# Altium integrated library Infineon Microcontroller 32-bit TriCore AURIX.IntLib: 81 symbols (part 4 of 8)
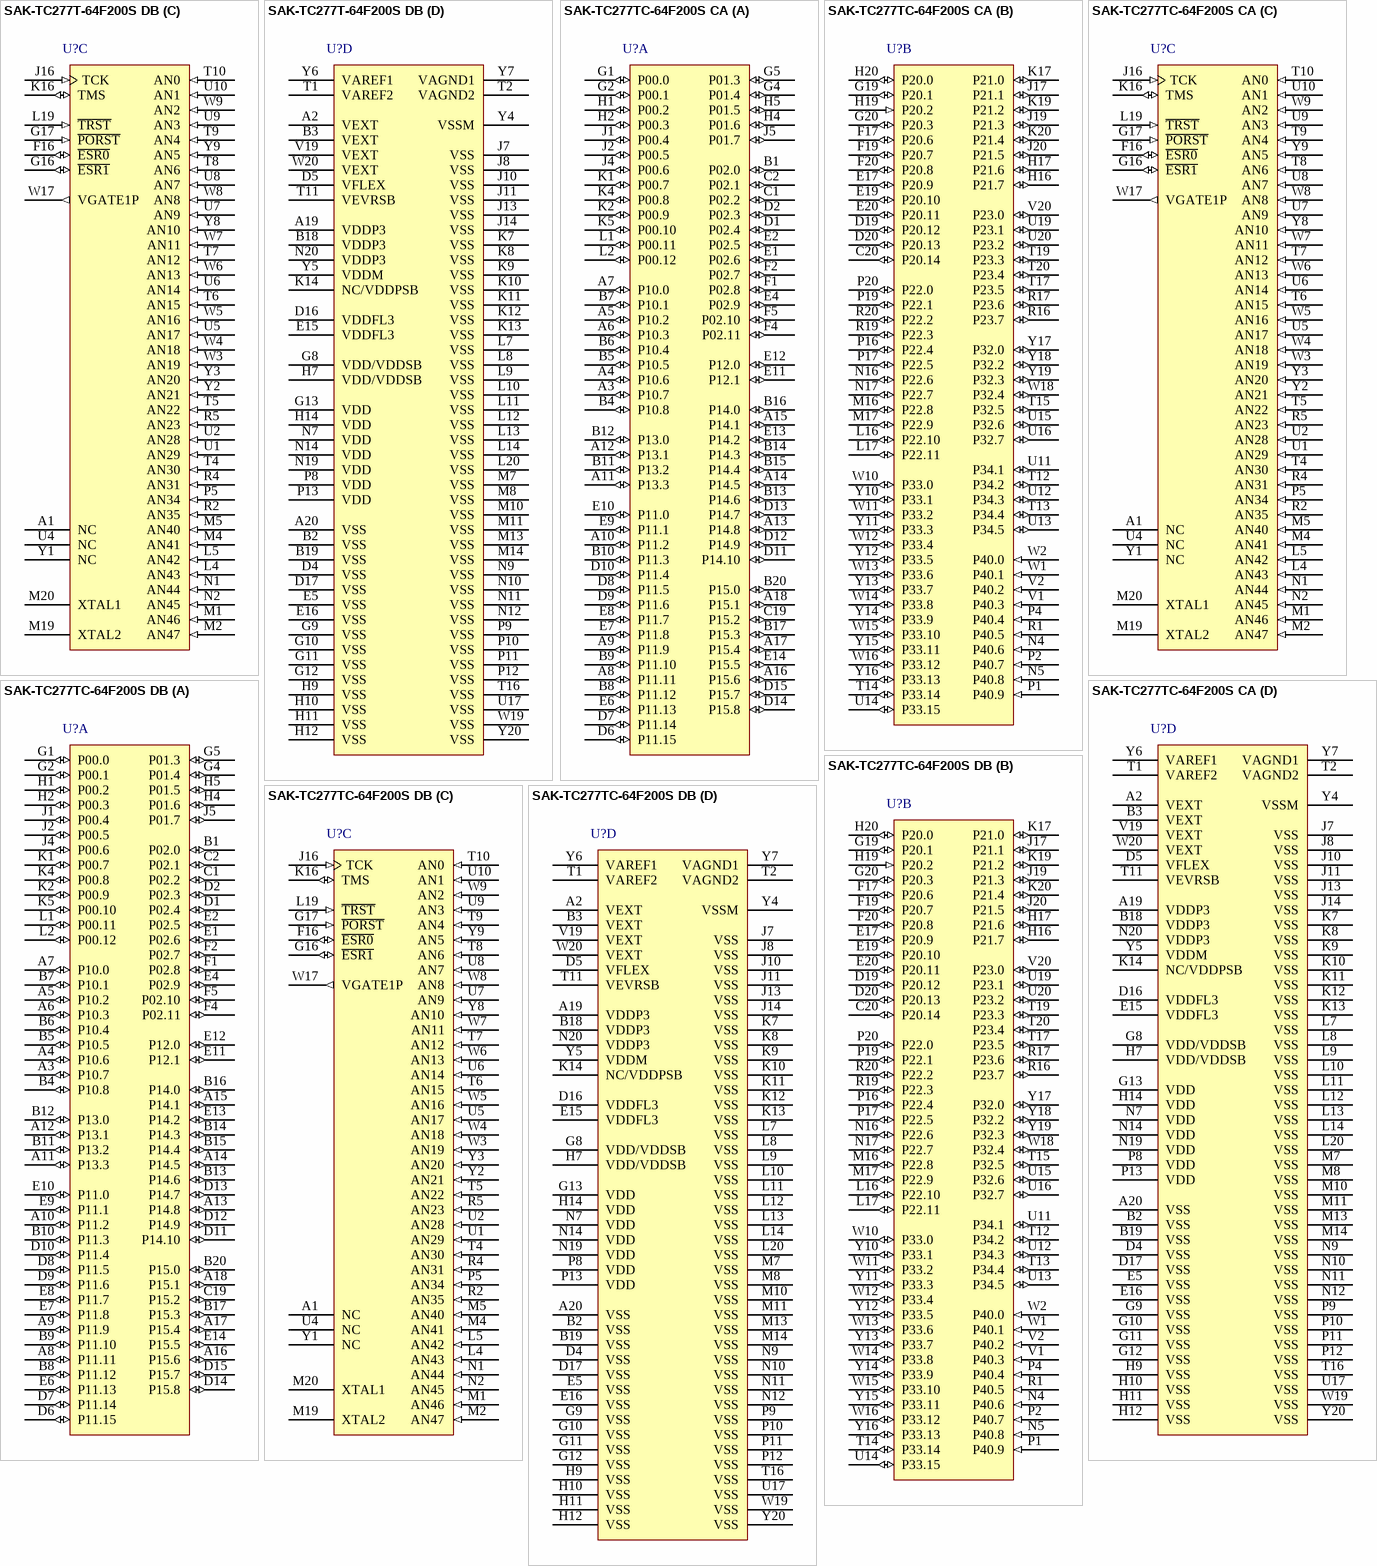
[diagram p38: symbols SAK-TC277T-64F200S DB to SAK-TC277TC-64F200S DB]

## SAK-TC277TC-64F200S DB
designator U?
32-bit multi-core TriCore AURIX microcontroller with 424 KB SRAM, 4 MB Flash, 200 MHz Frequency, -40 to 125 degC, PG-LFBGA-292; Manufacturer: Infineon; ADC Chan.: 60; CAN FD: No; Core 0 TC16E DSPR (KB): 112; Core 0 TC16E PSPR (KB): 24; Core 1&2 TC16P DSPR (KB): 120; EEPROM (KB): 24 @ 500k; Flash (MB): 4; FlexRay (#/ch.): 1 / 2; Freq. (MHz): 200; HSM: Yes; Total SRAM (KB): 424; Derivative: SAK-TC277TC-64F200S DB; DatasheetVersion: Rev. 0.7; PackageReference: PG-LFBGA-292-6; PackageDescription: 292-Pin Plastic (Green) Low Profile Fine Pitch Ball Grid Array Package, 17 x 17 mm Body, 0.8 mm Pitch; Core 1&2 TC16P PSPR (KB): 24; ETH: No; Supplier Part Reference: TC277TC64F200SDBKXUMA1; Mounting Technology: Surface Mount; PartNumber: SAK-TC277TC-64F200S DB; ComponentLink1Description: Manufacturer URL; ComponentLink1URL: http://www.infineon.com/
footprint INF-PG-LFBGA-292-6 (BGA, 292-Balls, Body 17x17mm, Pitch 0.8mm)
part A pins: A3 P10.7 (io), A4 P10.6 (io), A5 P10.2 (io), A6 P10.3 (io), A7 P10.0 (io), A8 P11.11 (io), A9 P11.9 (io), A10 P11.2 (io), A11 P13.3 (io), A12 P13.1 (io), A13 P14.8 (io), A14 P14.5 (io), A15 P14.1 (io), A16 P15.6 (io), A17 P15.4 (io), A18 P15.1 (io), B1 P02.0 (io), B4 P10.8 (io), B5 P10.5 (io), B6 P10.4 (io), B7 P10.1 (io), B8 P11.12 (io), B9 P11.10 (io), B10 P11.3 (io), B11 P13.2 (io), B12 P13.0 (io), B13 P14.6 (io), B14 P14.3 (io), B15 P14.4 (io), B16 P14.0 (io), B17 P15.3 (io), B20 P15.0 (io), C1 P02.2 (io), C2 P02.1 (io), C19 P15.2 (io), D1 P02.4 (io), D2 P02.3 (io), D6 P11.15 (io), D7 P11.14 (io), D8 P11.5 (io), D9 P11.6 (io), D10 P11.4 (io), D11 P14.10 (io), D12 P14.9 (io), D13 P14.7 (io), D14 P15.8 (io), D15 P15.7 (io), E1 P02.6 (io), E2 P02.5 (io), E4 P02.9 (io), E6 P11.13 (io), E7 P11.8 (io), E8 P11.7 (io), E9 P11.1 (io), E10 P11.0 (io), E11 P12.1 (io), E12 P12.0 (io), E13 P14.2 (io), E14 P15.5 (io), F1 P02.8 (io), F2 P02.7 (io), F4 P02.11 (io), F5 P02.10 (io), G1 P00.0 (io), G2 P00.1 (io), G4 P01.4 (io), G5 P01.3 (io), H1 P00.2 (io), H2 P00.3 (io), H4 P01.6 (io), H5 P01.5 (io), J1 P00.4 (io), J2 P00.5 (io), J4 P00.6 (io), J5 P01.7 (io), K1 P00.7 (io), K2 P00.9 (io), K4 P00.8 (io), K5 P00.10 (io), L1 P00.11 (io), L2 P00.12 (io)
part B pins: C20 P20.14 (io), D19 P20.12 (io), D20 P20.13 (io), E17 P20.9 (io), E19 P20.10 (io), E20 P20.11 (io), F17 P20.6 (io), F19 P20.7 (io), F20 P20.8 (io), G19 P20.1 (io), G20 P20.3 (io), H16 P21.7 (io), H17 P21.6 (io), H19 P20.2 (in), H20 P20.0 (io), J17 P21.1 (io), J19 P21.3 (io), J20 P21.5 (io), K17 P21.0 (io), K19 P21.2 (io), K20 P21.4 (io), L16 P22.10 (io), L17 P22.11 (io), M16 P22.8 (io), M17 P22.9 (io), N4 P40.6 (in), N5 P40.8 (in), N16 P22.6 (io), N17 P22.7 (io), P1 P40.9 (in), P2 P40.7 (in), P4 P40.4 (in), P16 P22.4 (io), P17 P22.5 (io), P19 P22.1 (io), P20 P22.0 (io), R1 P40.5 (in), R16 P23.7 (io), R17 P23.6 (io), R19 P22.3 (io), R20 P22.2 (io), T12 P34.2 (io), T13 P34.4 (io), T14 P33.14 (io), T15 P32.5 (io), T17 P23.5 (io), T19 P23.3 (io), T20 P23.4 (io), U11 P34.1 (io), U12 P34.3 (io), U13 P34.5 (io), U14 P33.15 (io), U15 P32.6 (io), U16 P32.7 (io), U19 P23.1 (io), U20 P23.2 (io), V1 P40.3 (in), V2 P40.2 (in), V20 P23.0 (io), W1 P40.1 (in), W2 P40.0 (in), W10 P33.0 (io), W11 P33.2 (io), W12 P33.4 (io), W13 P33.6 (io), W14 P33.8 (io), W15 P33.10 (io), W16 P33.12 (io), W18 P32.4 (io), Y10 P33.1 (io), Y11 P33.3 (io), Y12 P33.5 (io), Y13 P33.7 (io), Y14 P33.9 (io), Y15 P33.11 (io), Y16 P33.13 (io), Y17 P32.0 (io), Y18 P32.2 (io), Y19 P32.3 (io)
part C pins: A1 NC, F16 ~{ESR0} (io), G16 ~{ESR1} (io), G17 ~{PORST} (in), J16 TCK (in), K16 TMS (io), L4 AN43 (in), L5 AN42 (in), L19 ~{TRST} (in), M1 AN46 (in), M2 AN47 (in), M4 AN41 (in), M5 AN40 (in), M19 XTAL2, M20 XTAL1, N1 AN44 (in), N2 AN45 (in), P5 AN34 (in), R2 AN35 (in), R4 AN31 (in), R5 AN23 (in), T4 AN30 (in), T5 AN22 (in), T6 AN15 (in), T7 AN12 (in), T8 AN6 (in), T9 AN4 (in), T10 AN0 (in), U1 AN29 (in), U2 AN28 (in), U4 NC, U5 AN17 (in), U6 AN14 (in), U7 AN9 (in), U8 AN7 (in), U9 AN3 (in), U10 AN1 (in), W3 AN19 (in), W4 AN18 (in), W5 AN16 (in), W6 AN13 (in), W7 AN11 (in), W8 AN8 (in), W9 AN2 (in), W17 VGATE1P (out), Y1 NC, Y2 AN21 (in), Y3 AN20 (in), Y8 AN10 (in), Y9 AN5 (in)
part D pins: A2 VEXT (power), A19 VDDP3 (power), A20 VSS (power), B2 VSS (power), B3 VEXT (power), B18 VDDP3 (power), B19 VSS (power), D4 VSS (power), D5 VFLEX (power), D16 VDDFL3 (power), D17 VSS (power), E5 VSS (power), E15 VDDFL3 (power), E16 VSS (power), G8 VDD/VDDSB (power), G9 VSS (power), G10 VSS (power), G11 VSS (power), G12 VSS (power), G13 VDD (power), H7 VDD/VDDSB (power), H9 VSS (power), H10 VSS (power), H11 VSS (power), H12 VSS (power), H14 VDD (power), J7 VSS (power), J8 VSS (power), J10 VSS (power), J11 VSS (power), J13 VSS (power), J14 VSS (power), K7 VSS (power), K8 VSS (power), K9 VSS (power), K10 VSS (power), K11 VSS (power), K12 VSS (power), K13 VSS (power), K14 NC/VDDPSB, L7 VSS (power), L8 VSS (power), L9 VSS (power), L10 VSS (power), L11 VSS (power), L12 VSS (power), L13 VSS (power), L14 VSS (power), L20 VSS (power), M7 VSS (power), M8 VSS (power), M10 VSS (power), M11 VSS (power), M13 VSS (power), M14 VSS (power), N7 VDD (power), N9 VSS (power), N10 VSS (power), N11 VSS (power), N12 VSS (power), N14 VDD (power), N19 VDD (power), N20 VDDP3 (power), P8 VDD (power), P9 VSS (power), P10 VSS (power), P11 VSS (power), P12 VSS (power), P13 VDD (power), T1 VAREF2 (power), T2 VAGND2 (power), T11 VEVRSB (power), T16 VSS (power), U17 VSS (power), V19 VEXT (power), W19 VSS (power), W20 VEXT (power), Y4 VSSM (power), Y5 VDDM (power), Y6 VAREF1 (power), Y7 VAGND1 (power), Y20 VSS (power)

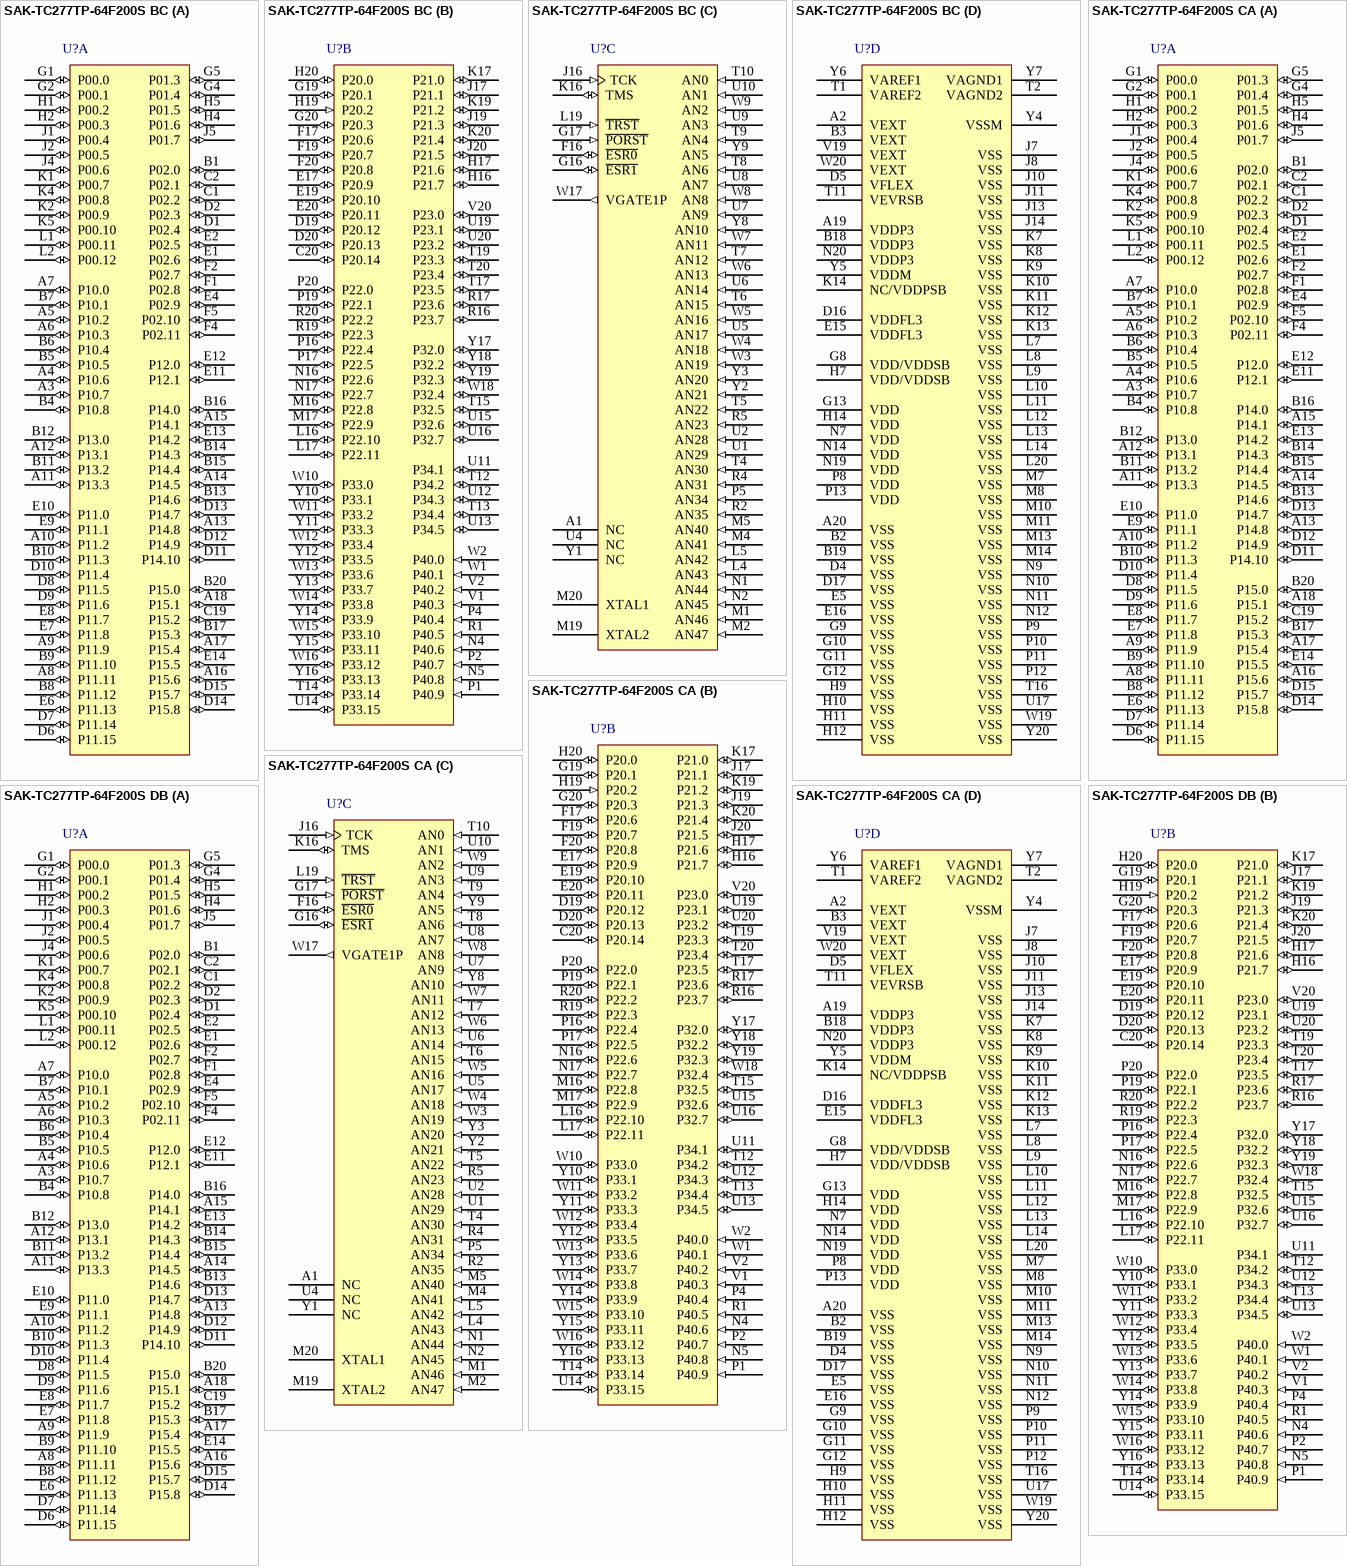
[diagram p16: symbols SAK-TC277TP-64F200S BC to SAK-TC277TP-64F200S DB]

## SAK-TC277TP-64F200S BC
designator U?
32-bit multi-core TriCore AURIX microcontroller with 472 KB SRAM, 4 MB Flash, 200 MHz Frequency, -40 to 125 degC, PG-LFBGA-292; Manufacturer: Infineon; ADC Chan.: 60; CAN FD: No; Core 0 TC16E DSPR (KB): 112; Core 0 TC16E PSPR (KB): 24; Core 1&2 TC16P DSPR (KB): 120; Core 1&2 TC16P PSPR (KB): 32; EEPROM (KB): 64 @ 500k; ETH: Yes; Flash (MB): 4; FlexRay (#/ch.): 1 / 2; Freq. (MHz): 200; Total SRAM (KB): 472; Derivative: SAK-TC277TP-64F200S BC; DatasheetVersion: Rev. 0.71; PackageReference: PG-LFBGA-292-6; PackageDescription: 292-Pin Plastic (Green) Low Profile Fine Pitch Ball Grid Array Package, 17 x 17 mm Body, 0.8 mm Pitch; HSM: Yes; LMU (KB): 32; Supplier Part Reference: TC277TP64F200SBCKXUMA1; Mounting Technology: Surface Mount; PartNumber: SAK-TC277TP-64F200S BC; ComponentLink1Description: Manufacturer URL; ComponentLink1URL: http://www.infineon.com/
footprint INF-PG-LFBGA-292-6 (BGA, 292-Balls, Body 17x17mm, Pitch 0.8mm)
part A pins: A3 P10.7 (io), A4 P10.6 (io), A5 P10.2 (io), A6 P10.3 (io), A7 P10.0 (io), A8 P11.11 (io), A9 P11.9 (io), A10 P11.2 (io), A11 P13.3 (io), A12 P13.1 (io), A13 P14.8 (io), A14 P14.5 (io), A15 P14.1 (io), A16 P15.6 (io), A17 P15.4 (io), A18 P15.1 (io), B1 P02.0 (io), B4 P10.8 (io), B5 P10.5 (io), B6 P10.4 (io), B7 P10.1 (io), B8 P11.12 (io), B9 P11.10 (io), B10 P11.3 (io), B11 P13.2 (io), B12 P13.0 (io), B13 P14.6 (io), B14 P14.3 (io), B15 P14.4 (io), B16 P14.0 (io), B17 P15.3 (io), B20 P15.0 (io), C1 P02.2 (io), C2 P02.1 (io), C19 P15.2 (io), D1 P02.4 (io), D2 P02.3 (io), D6 P11.15 (io), D7 P11.14 (io), D8 P11.5 (io), D9 P11.6 (io), D10 P11.4 (io), D11 P14.10 (io), D12 P14.9 (io), D13 P14.7 (io), D14 P15.8 (io), D15 P15.7 (io), E1 P02.6 (io), E2 P02.5 (io), E4 P02.9 (io), E6 P11.13 (io), E7 P11.8 (io), E8 P11.7 (io), E9 P11.1 (io), E10 P11.0 (io), E11 P12.1 (io), E12 P12.0 (io), E13 P14.2 (io), E14 P15.5 (io), F1 P02.8 (io), F2 P02.7 (io), F4 P02.11 (io), F5 P02.10 (io), G1 P00.0 (io), G2 P00.1 (io), G4 P01.4 (io), G5 P01.3 (io), H1 P00.2 (io), H2 P00.3 (io), H4 P01.6 (io), H5 P01.5 (io), J1 P00.4 (io), J2 P00.5 (io), J4 P00.6 (io), J5 P01.7 (io), K1 P00.7 (io), K2 P00.9 (io), K4 P00.8 (io), K5 P00.10 (io), L1 P00.11 (io), L2 P00.12 (io)
part B pins: C20 P20.14 (io), D19 P20.12 (io), D20 P20.13 (io), E17 P20.9 (io), E19 P20.10 (io), E20 P20.11 (io), F17 P20.6 (io), F19 P20.7 (io), F20 P20.8 (io), G19 P20.1 (io), G20 P20.3 (io), H16 P21.7 (io), H17 P21.6 (io), H19 P20.2 (in), H20 P20.0 (io), J17 P21.1 (io), J19 P21.3 (io), J20 P21.5 (io), K17 P21.0 (io), K19 P21.2 (io), K20 P21.4 (io), L16 P22.10 (io), L17 P22.11 (io), M16 P22.8 (io), M17 P22.9 (io), N4 P40.6 (in), N5 P40.8 (in), N16 P22.6 (io), N17 P22.7 (io), P1 P40.9 (in), P2 P40.7 (in), P4 P40.4 (in), P16 P22.4 (io), P17 P22.5 (io), P19 P22.1 (io), P20 P22.0 (io), R1 P40.5 (in), R16 P23.7 (io), R17 P23.6 (io), R19 P22.3 (io), R20 P22.2 (io), T12 P34.2 (io), T13 P34.4 (io), T14 P33.14 (io), T15 P32.5 (io), T17 P23.5 (io), T19 P23.3 (io), T20 P23.4 (io), U11 P34.1 (io), U12 P34.3 (io), U13 P34.5 (io), U14 P33.15 (io), U15 P32.6 (io), U16 P32.7 (io), U19 P23.1 (io), U20 P23.2 (io), V1 P40.3 (in), V2 P40.2 (in), V20 P23.0 (io), W1 P40.1 (in), W2 P40.0 (in), W10 P33.0 (io), W11 P33.2 (io), W12 P33.4 (io), W13 P33.6 (io), W14 P33.8 (io), W15 P33.10 (io), W16 P33.12 (io), W18 P32.4 (io), Y10 P33.1 (io), Y11 P33.3 (io), Y12 P33.5 (io), Y13 P33.7 (io), Y14 P33.9 (io), Y15 P33.11 (io), Y16 P33.13 (io), Y17 P32.0 (io), Y18 P32.2 (io), Y19 P32.3 (io)
part C pins: A1 NC, F16 ~{ESR0} (io), G16 ~{ESR1} (io), G17 ~{PORST} (in), J16 TCK (in), K16 TMS (io), L4 AN43 (in), L5 AN42 (in), L19 ~{TRST} (in), M1 AN46 (in), M2 AN47 (in), M4 AN41 (in), M5 AN40 (in), M19 XTAL2, M20 XTAL1, N1 AN44 (in), N2 AN45 (in), P5 AN34 (in), R2 AN35 (in), R4 AN31 (in), R5 AN23 (in), T4 AN30 (in), T5 AN22 (in), T6 AN15 (in), T7 AN12 (in), T8 AN6 (in), T9 AN4 (in), T10 AN0 (in), U1 AN29 (in), U2 AN28 (in), U4 NC, U5 AN17 (in), U6 AN14 (in), U7 AN9 (in), U8 AN7 (in), U9 AN3 (in), U10 AN1 (in), W3 AN19 (in), W4 AN18 (in), W5 AN16 (in), W6 AN13 (in), W7 AN11 (in), W8 AN8 (in), W9 AN2 (in), W17 VGATE1P (out), Y1 NC, Y2 AN21 (in), Y3 AN20 (in), Y8 AN10 (in), Y9 AN5 (in)
part D pins: A2 VEXT (power), A19 VDDP3 (power), A20 VSS (power), B2 VSS (power), B3 VEXT (power), B18 VDDP3 (power), B19 VSS (power), D4 VSS (power), D5 VFLEX (power), D16 VDDFL3 (power), D17 VSS (power), E5 VSS (power), E15 VDDFL3 (power), E16 VSS (power), G8 VDD/VDDSB (power), G9 VSS (power), G10 VSS (power), G11 VSS (power), G12 VSS (power), G13 VDD (power), H7 VDD/VDDSB (power), H9 VSS (power), H10 VSS (power), H11 VSS (power), H12 VSS (power), H14 VDD (power), J7 VSS (power), J8 VSS (power), J10 VSS (power), J11 VSS (power), J13 VSS (power), J14 VSS (power), K7 VSS (power), K8 VSS (power), K9 VSS (power), K10 VSS (power), K11 VSS (power), K12 VSS (power), K13 VSS (power), K14 NC/VDDPSB, L7 VSS (power), L8 VSS (power), L9 VSS (power), L10 VSS (power), L11 VSS (power), L12 VSS (power), L13 VSS (power), L14 VSS (power), L20 VSS (power), M7 VSS (power), M8 VSS (power), M10 VSS (power), M11 VSS (power), M13 VSS (power), M14 VSS (power), N7 VDD (power), N9 VSS (power), N10 VSS (power), N11 VSS (power), N12 VSS (power), N14 VDD (power), N19 VDD (power), N20 VDDP3 (power), P8 VDD (power), P9 VSS (power), P10 VSS (power), P11 VSS (power), P12 VSS (power), P13 VDD (power), T1 VAREF2 (power), T2 VAGND2 (power), T11 VEVRSB (power), T16 VSS (power), U17 VSS (power), V19 VEXT (power), W19 VSS (power), W20 VEXT (power), Y4 VSSM (power), Y5 VDDM (power), Y6 VAREF1 (power), Y7 VAGND1 (power), Y20 VSS (power)

## SAK-TC277TP-64F200S CA
designator U?
32-bit multi-core TriCore AURIX microcontroller with 472 KB SRAM, 4 MB Flash, 200 MHz Frequency, -40 to 125 degC, PG-LFBGA-292; Manufacturer: Infineon; ADC Chan.: 60; CAN FD: Yes; Core 0 TC16E DSPR (KB): 112; Core 0 TC16E PSPR (KB): 24; Core 1&2 TC16P DSPR (KB): 120; Core 1&2 TC16P PSPR (KB): 32; EEPROM (KB): 64 @ 500k; Flash (MB): 4; FlexRay (#/ch.): 1 / 2; Freq. (MHz): 200; Total SRAM (KB): 472; Derivative: SAK-TC277TP-64F200S CA; DatasheetVersion: Rev. 0.71; PackageReference: PG-LFBGA-292-6; PackageDescription: 292-Pin Plastic (Green) Low Profile Fine Pitch Ball Grid Array Package, 17 x 17 mm Body, 0.8 mm Pitch; Supplier 1: Mouser; Supplier Part Number 1: 726-TC277TP64F200SCA; Supplier 2: Digi-Key; Supplier Part Number 2: TC277TP64F200SCAKXUMA1TR-ND; Supplier 3: Digi-Key; Supplier Part Number 3: TC277TP64F200SCAKXUMA1CT-ND; Supplier 4: Digi-Key; Supplier Part Number 4: TC277TP64F200SCAKXUMA1DKR-ND; ETH: Yes; HSM: Yes; LMU (KB): 32; Supplier Part Reference: TC277TP64F200SCAKXUMA1; Mounting Technology: Surface Mount; PartNumber: SAK-TC277TP-64F200S CA; ComponentLink1Description: Manufacturer URL; ComponentLink1URL: http://www.infineon.com/
footprint INF-PG-LFBGA-292-6 (BGA, 292-Balls, Body 17x17mm, Pitch 0.8mm)
part A pins: A3 P10.7 (io), A4 P10.6 (io), A5 P10.2 (io), A6 P10.3 (io), A7 P10.0 (io), A8 P11.11 (io), A9 P11.9 (io), A10 P11.2 (io), A11 P13.3 (io), A12 P13.1 (io), A13 P14.8 (io), A14 P14.5 (io), A15 P14.1 (io), A16 P15.6 (io), A17 P15.4 (io), A18 P15.1 (io), B1 P02.0 (io), B4 P10.8 (io), B5 P10.5 (io), B6 P10.4 (io), B7 P10.1 (io), B8 P11.12 (io), B9 P11.10 (io), B10 P11.3 (io), B11 P13.2 (io), B12 P13.0 (io), B13 P14.6 (io), B14 P14.3 (io), B15 P14.4 (io), B16 P14.0 (io), B17 P15.3 (io), B20 P15.0 (io), C1 P02.2 (io), C2 P02.1 (io), C19 P15.2 (io), D1 P02.4 (io), D2 P02.3 (io), D6 P11.15 (io), D7 P11.14 (io), D8 P11.5 (io), D9 P11.6 (io), D10 P11.4 (io), D11 P14.10 (io), D12 P14.9 (io), D13 P14.7 (io), D14 P15.8 (io), D15 P15.7 (io), E1 P02.6 (io), E2 P02.5 (io), E4 P02.9 (io), E6 P11.13 (io), E7 P11.8 (io), E8 P11.7 (io), E9 P11.1 (io), E10 P11.0 (io), E11 P12.1 (io), E12 P12.0 (io), E13 P14.2 (io), E14 P15.5 (io), F1 P02.8 (io), F2 P02.7 (io), F4 P02.11 (io), F5 P02.10 (io), G1 P00.0 (io), G2 P00.1 (io), G4 P01.4 (io), G5 P01.3 (io), H1 P00.2 (io), H2 P00.3 (io), H4 P01.6 (io), H5 P01.5 (io), J1 P00.4 (io), J2 P00.5 (io), J4 P00.6 (io), J5 P01.7 (io), K1 P00.7 (io), K2 P00.9 (io), K4 P00.8 (io), K5 P00.10 (io), L1 P00.11 (io), L2 P00.12 (io)
part B pins: C20 P20.14 (io), D19 P20.12 (io), D20 P20.13 (io), E17 P20.9 (io), E19 P20.10 (io), E20 P20.11 (io), F17 P20.6 (io), F19 P20.7 (io), F20 P20.8 (io), G19 P20.1 (io), G20 P20.3 (io), H16 P21.7 (io), H17 P21.6 (io), H19 P20.2 (in), H20 P20.0 (io), J17 P21.1 (io), J19 P21.3 (io), J20 P21.5 (io), K17 P21.0 (io), K19 P21.2 (io), K20 P21.4 (io), L16 P22.10 (io), L17 P22.11 (io), M16 P22.8 (io), M17 P22.9 (io), N4 P40.6 (in), N5 P40.8 (in), N16 P22.6 (io), N17 P22.7 (io), P1 P40.9 (in), P2 P40.7 (in), P4 P40.4 (in), P16 P22.4 (io), P17 P22.5 (io), P19 P22.1 (io), P20 P22.0 (io), R1 P40.5 (in), R16 P23.7 (io), R17 P23.6 (io), R19 P22.3 (io), R20 P22.2 (io), T12 P34.2 (io), T13 P34.4 (io), T14 P33.14 (io), T15 P32.5 (io), T17 P23.5 (io), T19 P23.3 (io), T20 P23.4 (io), U11 P34.1 (io), U12 P34.3 (io), U13 P34.5 (io), U14 P33.15 (io), U15 P32.6 (io), U16 P32.7 (io), U19 P23.1 (io), U20 P23.2 (io), V1 P40.3 (in), V2 P40.2 (in), V20 P23.0 (io), W1 P40.1 (in), W2 P40.0 (in), W10 P33.0 (io), W11 P33.2 (io), W12 P33.4 (io), W13 P33.6 (io), W14 P33.8 (io), W15 P33.10 (io), W16 P33.12 (io), W18 P32.4 (io), Y10 P33.1 (io), Y11 P33.3 (io), Y12 P33.5 (io), Y13 P33.7 (io), Y14 P33.9 (io), Y15 P33.11 (io), Y16 P33.13 (io), Y17 P32.0 (io), Y18 P32.2 (io), Y19 P32.3 (io)
part C pins: A1 NC, F16 ~{ESR0} (io), G16 ~{ESR1} (io), G17 ~{PORST} (in), J16 TCK (in), K16 TMS (io), L4 AN43 (in), L5 AN42 (in), L19 ~{TRST} (in), M1 AN46 (in), M2 AN47 (in), M4 AN41 (in), M5 AN40 (in), M19 XTAL2, M20 XTAL1, N1 AN44 (in), N2 AN45 (in), P5 AN34 (in), R2 AN35 (in), R4 AN31 (in), R5 AN23 (in), T4 AN30 (in), T5 AN22 (in), T6 AN15 (in), T7 AN12 (in), T8 AN6 (in), T9 AN4 (in), T10 AN0 (in), U1 AN29 (in), U2 AN28 (in), U4 NC, U5 AN17 (in), U6 AN14 (in), U7 AN9 (in), U8 AN7 (in), U9 AN3 (in), U10 AN1 (in), W3 AN19 (in), W4 AN18 (in), W5 AN16 (in), W6 AN13 (in), W7 AN11 (in), W8 AN8 (in), W9 AN2 (in), W17 VGATE1P (out), Y1 NC, Y2 AN21 (in), Y3 AN20 (in), Y8 AN10 (in), Y9 AN5 (in)
part D pins: A2 VEXT (power), A19 VDDP3 (power), A20 VSS (power), B2 VSS (power), B3 VEXT (power), B18 VDDP3 (power), B19 VSS (power), D4 VSS (power), D5 VFLEX (power), D16 VDDFL3 (power), D17 VSS (power), E5 VSS (power), E15 VDDFL3 (power), E16 VSS (power), G8 VDD/VDDSB (power), G9 VSS (power), G10 VSS (power), G11 VSS (power), G12 VSS (power), G13 VDD (power), H7 VDD/VDDSB (power), H9 VSS (power), H10 VSS (power), H11 VSS (power), H12 VSS (power), H14 VDD (power), J7 VSS (power), J8 VSS (power), J10 VSS (power), J11 VSS (power), J13 VSS (power), J14 VSS (power), K7 VSS (power), K8 VSS (power), K9 VSS (power), K10 VSS (power), K11 VSS (power), K12 VSS (power), K13 VSS (power), K14 NC/VDDPSB, L7 VSS (power), L8 VSS (power), L9 VSS (power), L10 VSS (power), L11 VSS (power), L12 VSS (power), L13 VSS (power), L14 VSS (power), L20 VSS (power), M7 VSS (power), M8 VSS (power), M10 VSS (power), M11 VSS (power), M13 VSS (power), M14 VSS (power), N7 VDD (power), N9 VSS (power), N10 VSS (power), N11 VSS (power), N12 VSS (power), N14 VDD (power), N19 VDD (power), N20 VDDP3 (power), P8 VDD (power), P9 VSS (power), P10 VSS (power), P11 VSS (power), P12 VSS (power), P13 VDD (power), T1 VAREF2 (power), T2 VAGND2 (power), T11 VEVRSB (power), T16 VSS (power), U17 VSS (power), V19 VEXT (power), W19 VSS (power), W20 VEXT (power), Y4 VSSM (power), Y5 VDDM (power), Y6 VAREF1 (power), Y7 VAGND1 (power), Y20 VSS (power)

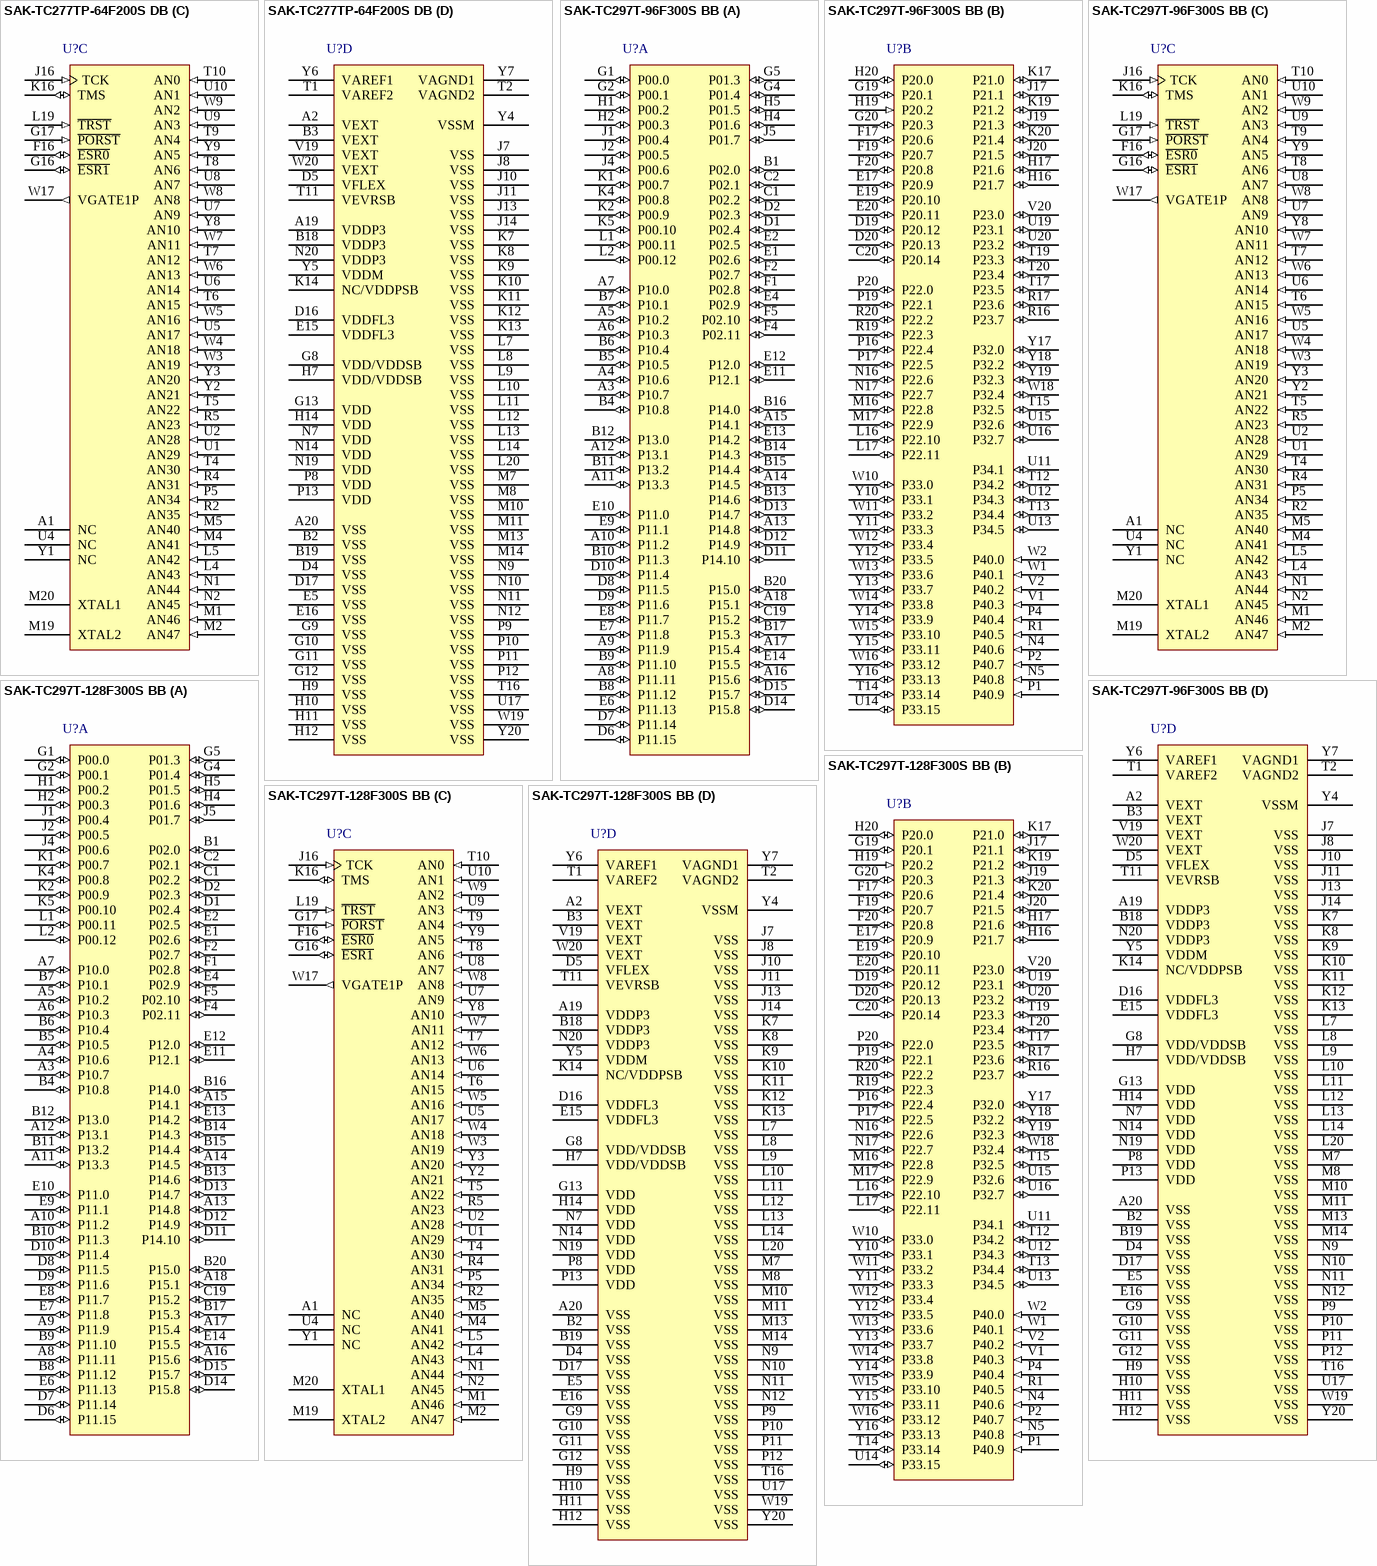
[diagram p17: symbols SAK-TC277TP-64F200S DB to SAK-TC297T-128F300S BB]

## SAK-TC277TP-64F200S DB
designator U?
32-bit multi-core TriCore AURIX microcontroller with 472 KB SRAM, 4 MB Flash, 200 MHz Frequency, -40 to 125 degC, PG-LFBGA-292; Manufacturer: Infineon; ADC Chan.: 60; CAN FD: Yes; Core 0 TC16E DSPR (KB): 112; Core 0 TC16E PSPR (KB): 24; Core 1&2 TC16P DSPR (KB): 120; Core 1&2 TC16P PSPR (KB): 32; EEPROM (KB): 64 @ 500k; Flash (MB): 4; FlexRay (#/ch.): 1 / 2; Freq. (MHz): 200; Total SRAM (KB): 472; Derivative: SAK-TC277TP-64F200S DB; DatasheetVersion: Rev. 0.7; PackageReference: PG-LFBGA-292-6; PackageDescription: 292-Pin Plastic (Green) Low Profile Fine Pitch Ball Grid Array Package, 17 x 17 mm Body, 0.8 mm Pitch; ETH: Yes; HSM: Yes; LMU (KB): 32; Supplier Part Reference: TC277TP64F200SDBKXUMA1; Mounting Technology: Surface Mount; PartNumber: SAK-TC277TP-64F200S DB; ComponentLink1Description: Manufacturer URL; ComponentLink1URL: http://www.infineon.com/
footprint INF-PG-LFBGA-292-6 (BGA, 292-Balls, Body 17x17mm, Pitch 0.8mm)
part A pins: A3 P10.7 (io), A4 P10.6 (io), A5 P10.2 (io), A6 P10.3 (io), A7 P10.0 (io), A8 P11.11 (io), A9 P11.9 (io), A10 P11.2 (io), A11 P13.3 (io), A12 P13.1 (io), A13 P14.8 (io), A14 P14.5 (io), A15 P14.1 (io), A16 P15.6 (io), A17 P15.4 (io), A18 P15.1 (io), B1 P02.0 (io), B4 P10.8 (io), B5 P10.5 (io), B6 P10.4 (io), B7 P10.1 (io), B8 P11.12 (io), B9 P11.10 (io), B10 P11.3 (io), B11 P13.2 (io), B12 P13.0 (io), B13 P14.6 (io), B14 P14.3 (io), B15 P14.4 (io), B16 P14.0 (io), B17 P15.3 (io), B20 P15.0 (io), C1 P02.2 (io), C2 P02.1 (io), C19 P15.2 (io), D1 P02.4 (io), D2 P02.3 (io), D6 P11.15 (io), D7 P11.14 (io), D8 P11.5 (io), D9 P11.6 (io), D10 P11.4 (io), D11 P14.10 (io), D12 P14.9 (io), D13 P14.7 (io), D14 P15.8 (io), D15 P15.7 (io), E1 P02.6 (io), E2 P02.5 (io), E4 P02.9 (io), E6 P11.13 (io), E7 P11.8 (io), E8 P11.7 (io), E9 P11.1 (io), E10 P11.0 (io), E11 P12.1 (io), E12 P12.0 (io), E13 P14.2 (io), E14 P15.5 (io), F1 P02.8 (io), F2 P02.7 (io), F4 P02.11 (io), F5 P02.10 (io), G1 P00.0 (io), G2 P00.1 (io), G4 P01.4 (io), G5 P01.3 (io), H1 P00.2 (io), H2 P00.3 (io), H4 P01.6 (io), H5 P01.5 (io), J1 P00.4 (io), J2 P00.5 (io), J4 P00.6 (io), J5 P01.7 (io), K1 P00.7 (io), K2 P00.9 (io), K4 P00.8 (io), K5 P00.10 (io), L1 P00.11 (io), L2 P00.12 (io)
part B pins: C20 P20.14 (io), D19 P20.12 (io), D20 P20.13 (io), E17 P20.9 (io), E19 P20.10 (io), E20 P20.11 (io), F17 P20.6 (io), F19 P20.7 (io), F20 P20.8 (io), G19 P20.1 (io), G20 P20.3 (io), H16 P21.7 (io), H17 P21.6 (io), H19 P20.2 (in), H20 P20.0 (io), J17 P21.1 (io), J19 P21.3 (io), J20 P21.5 (io), K17 P21.0 (io), K19 P21.2 (io), K20 P21.4 (io), L16 P22.10 (io), L17 P22.11 (io), M16 P22.8 (io), M17 P22.9 (io), N4 P40.6 (in), N5 P40.8 (in), N16 P22.6 (io), N17 P22.7 (io), P1 P40.9 (in), P2 P40.7 (in), P4 P40.4 (in), P16 P22.4 (io), P17 P22.5 (io), P19 P22.1 (io), P20 P22.0 (io), R1 P40.5 (in), R16 P23.7 (io), R17 P23.6 (io), R19 P22.3 (io), R20 P22.2 (io), T12 P34.2 (io), T13 P34.4 (io), T14 P33.14 (io), T15 P32.5 (io), T17 P23.5 (io), T19 P23.3 (io), T20 P23.4 (io), U11 P34.1 (io), U12 P34.3 (io), U13 P34.5 (io), U14 P33.15 (io), U15 P32.6 (io), U16 P32.7 (io), U19 P23.1 (io), U20 P23.2 (io), V1 P40.3 (in), V2 P40.2 (in), V20 P23.0 (io), W1 P40.1 (in), W2 P40.0 (in), W10 P33.0 (io), W11 P33.2 (io), W12 P33.4 (io), W13 P33.6 (io), W14 P33.8 (io), W15 P33.10 (io), W16 P33.12 (io), W18 P32.4 (io), Y10 P33.1 (io), Y11 P33.3 (io), Y12 P33.5 (io), Y13 P33.7 (io), Y14 P33.9 (io), Y15 P33.11 (io), Y16 P33.13 (io), Y17 P32.0 (io), Y18 P32.2 (io), Y19 P32.3 (io)
part C pins: A1 NC, F16 ~{ESR0} (io), G16 ~{ESR1} (io), G17 ~{PORST} (in), J16 TCK (in), K16 TMS (io), L4 AN43 (in), L5 AN42 (in), L19 ~{TRST} (in), M1 AN46 (in), M2 AN47 (in), M4 AN41 (in), M5 AN40 (in), M19 XTAL2, M20 XTAL1, N1 AN44 (in), N2 AN45 (in), P5 AN34 (in), R2 AN35 (in), R4 AN31 (in), R5 AN23 (in), T4 AN30 (in), T5 AN22 (in), T6 AN15 (in), T7 AN12 (in), T8 AN6 (in), T9 AN4 (in), T10 AN0 (in), U1 AN29 (in), U2 AN28 (in), U4 NC, U5 AN17 (in), U6 AN14 (in), U7 AN9 (in), U8 AN7 (in), U9 AN3 (in), U10 AN1 (in), W3 AN19 (in), W4 AN18 (in), W5 AN16 (in), W6 AN13 (in), W7 AN11 (in), W8 AN8 (in), W9 AN2 (in), W17 VGATE1P (out), Y1 NC, Y2 AN21 (in), Y3 AN20 (in), Y8 AN10 (in), Y9 AN5 (in)
part D pins: A2 VEXT (power), A19 VDDP3 (power), A20 VSS (power), B2 VSS (power), B3 VEXT (power), B18 VDDP3 (power), B19 VSS (power), D4 VSS (power), D5 VFLEX (power), D16 VDDFL3 (power), D17 VSS (power), E5 VSS (power), E15 VDDFL3 (power), E16 VSS (power), G8 VDD/VDDSB (power), G9 VSS (power), G10 VSS (power), G11 VSS (power), G12 VSS (power), G13 VDD (power), H7 VDD/VDDSB (power), H9 VSS (power), H10 VSS (power), H11 VSS (power), H12 VSS (power), H14 VDD (power), J7 VSS (power), J8 VSS (power), J10 VSS (power), J11 VSS (power), J13 VSS (power), J14 VSS (power), K7 VSS (power), K8 VSS (power), K9 VSS (power), K10 VSS (power), K11 VSS (power), K12 VSS (power), K13 VSS (power), K14 NC/VDDPSB, L7 VSS (power), L8 VSS (power), L9 VSS (power), L10 VSS (power), L11 VSS (power), L12 VSS (power), L13 VSS (power), L14 VSS (power), L20 VSS (power), M7 VSS (power), M8 VSS (power), M10 VSS (power), M11 VSS (power), M13 VSS (power), M14 VSS (power), N7 VDD (power), N9 VSS (power), N10 VSS (power), N11 VSS (power), N12 VSS (power), N14 VDD (power), N19 VDD (power), N20 VDDP3 (power), P8 VDD (power), P9 VSS (power), P10 VSS (power), P11 VSS (power), P12 VSS (power), P13 VDD (power), T1 VAREF2 (power), T2 VAGND2 (power), T11 VEVRSB (power), T16 VSS (power), U17 VSS (power), V19 VEXT (power), W19 VSS (power), W20 VEXT (power), Y4 VSSM (power), Y5 VDDM (power), Y6 VAREF1 (power), Y7 VAGND1 (power), Y20 VSS (power)

## SAK-TC297T-96F300S BB
designator U?
32-bit multi-core TriCore AURIX microcontroller with 728 KB SRAM, 6 MB Flash, 300 MHz Frequency, -40 to 125 degC, PG-LFBGA-292; Manufacturer: Infineon; ADC Chan.: 60; CAN FD: Yes; Core 0 TC16E DSPR (KB): 120; Core 0 TC16E PSPR (KB): 32; Core 1&2 TC16P DSPR (KB): 240; EEPROM (KB): 128@500k; Flash (MB): 6; FlexRay (#/ch.): 2 / 4; Freq. (MHz): 300; HSM: No; Total SRAM (KB): 728; Derivative: SAK-TC297T-96F300S BB; DatasheetVersion: Rev. 0.6; PackageReference: PG-LFBGA-292-6; PackageDescription: 292-Pin Plastic (Green) Low Profile Fine Pitch Ball Grid Array Package, 17 x 17 mm Body, 0.8 mm Pitch; Core 1&2 TC16P PSPR (KB): 32; ETH: Yes; LMU (KB): 32; Supplier Part Reference: TC297T96F300SBBKXUMA1; Mounting Technology: Surface Mount; PartNumber: SAK-TC297T-96F300S BB; ComponentLink1Description: Manufacturer URL; ComponentLink1URL: http://www.infineon.com/
footprint INF-PG-LFBGA-292-6 (BGA, 292-Balls, Body 17x17mm, Pitch 0.8mm)
part A pins: A3 P10.7 (io), A4 P10.6 (io), A5 P10.2 (io), A6 P10.3 (io), A7 P10.0 (io), A8 P11.11 (io), A9 P11.9 (io), A10 P11.2 (io), A11 P13.3 (io), A12 P13.1 (io), A13 P14.8 (io), A14 P14.5 (io), A15 P14.1 (io), A16 P15.6 (io), A17 P15.4 (io), A18 P15.1 (io), B1 P02.0 (io), B4 P10.8 (io), B5 P10.5 (io), B6 P10.4 (io), B7 P10.1 (io), B8 P11.12 (io), B9 P11.10 (io), B10 P11.3 (io), B11 P13.2 (io), B12 P13.0 (io), B13 P14.6 (io), B14 P14.3 (io), B15 P14.4 (io), B16 P14.0 (io), B17 P15.3 (io), B20 P15.0 (io), C1 P02.2 (io), C2 P02.1 (io), C19 P15.2 (io), D1 P02.4 (io), D2 P02.3 (io), D6 P11.15 (io), D7 P11.14 (io), D8 P11.5 (io), D9 P11.6 (io), D10 P11.4 (io), D11 P14.10 (io), D12 P14.9 (io), D13 P14.7 (io), D14 P15.8 (io), D15 P15.7 (io), E1 P02.6 (io), E2 P02.5 (io), E4 P02.9 (io), E6 P11.13 (io), E7 P11.8 (io), E8 P11.7 (io), E9 P11.1 (io), E10 P11.0 (io), E11 P12.1 (io), E12 P12.0 (io), E13 P14.2 (io), E14 P15.5 (io), F1 P02.8 (io), F2 P02.7 (io), F4 P02.11 (io), F5 P02.10 (io), G1 P00.0 (io), G2 P00.1 (io), G4 P01.4 (io), G5 P01.3 (io), H1 P00.2 (io), H2 P00.3 (io), H4 P01.6 (io), H5 P01.5 (io), J1 P00.4 (io), J2 P00.5 (io), J4 P00.6 (io), J5 P01.7 (io), K1 P00.7 (io), K2 P00.9 (io), K4 P00.8 (io), K5 P00.10 (io), L1 P00.11 (io), L2 P00.12 (io)
part B pins: C20 P20.14 (io), D19 P20.12 (io), D20 P20.13 (io), E17 P20.9 (io), E19 P20.10 (io), E20 P20.11 (io), F17 P20.6 (io), F19 P20.7 (io), F20 P20.8 (io), G19 P20.1 (io), G20 P20.3 (io), H16 P21.7 (io), H17 P21.6 (io), H19 P20.2 (in), H20 P20.0 (io), J17 P21.1 (io), J19 P21.3 (io), J20 P21.5 (io), K17 P21.0 (io), K19 P21.2 (io), K20 P21.4 (io), L16 P22.10 (io), L17 P22.11 (io), M16 P22.8 (io), M17 P22.9 (io), N4 P40.6 (in), N5 P40.8 (in), N16 P22.6 (io), N17 P22.7 (io), P1 P40.9 (in), P2 P40.7 (in), P4 P40.4 (in), P16 P22.4 (io), P17 P22.5 (io), P19 P22.1 (io), P20 P22.0 (io), R1 P40.5 (in), R16 P23.7 (io), R17 P23.6 (io), R19 P22.3 (io), R20 P22.2 (io), T12 P34.2 (io), T13 P34.4 (io), T14 P33.14 (io), T15 P32.5 (io), T17 P23.5 (io), T19 P23.3 (io), T20 P23.4 (io), U11 P34.1 (io), U12 P34.3 (io), U13 P34.5 (io), U14 P33.15 (io), U15 P32.6 (io), U16 P32.7 (io), U19 P23.1 (io), U20 P23.2 (io), V1 P40.3 (in), V2 P40.2 (in), V20 P23.0 (io), W1 P40.1 (in), W2 P40.0 (in), W10 P33.0 (io), W11 P33.2 (io), W12 P33.4 (io), W13 P33.6 (io), W14 P33.8 (io), W15 P33.10 (io), W16 P33.12 (io), W18 P32.4 (io), Y10 P33.1 (io), Y11 P33.3 (io), Y12 P33.5 (io), Y13 P33.7 (io), Y14 P33.9 (io), Y15 P33.11 (io), Y16 P33.13 (io), Y17 P32.0 (io), Y18 P32.2 (io), Y19 P32.3 (io)
part C pins: A1 NC, F16 ~{ESR0} (io), G16 ~{ESR1} (io), G17 ~{PORST} (in), J16 TCK (in), K16 TMS (io), L4 AN43 (in), L5 AN42 (in), L19 ~{TRST} (in), M1 AN46 (in), M2 AN47 (in), M4 AN41 (in), M5 AN40 (in), M19 XTAL2, M20 XTAL1, N1 AN44 (in), N2 AN45 (in), P5 AN34 (in), R2 AN35 (in), R4 AN31 (in), R5 AN23 (in), T4 AN30 (in), T5 AN22 (in), T6 AN15 (in), T7 AN12 (in), T8 AN6 (in), T9 AN4 (in), T10 AN0 (in), U1 AN29 (in), U2 AN28 (in), U4 NC, U5 AN17 (in), U6 AN14 (in), U7 AN9 (in), U8 AN7 (in), U9 AN3 (in), U10 AN1 (in), W3 AN19 (in), W4 AN18 (in), W5 AN16 (in), W6 AN13 (in), W7 AN11 (in), W8 AN8 (in), W9 AN2 (in), W17 VGATE1P (out), Y1 NC, Y2 AN21 (in), Y3 AN20 (in), Y8 AN10 (in), Y9 AN5 (in)
part D pins: A2 VEXT (power), A19 VDDP3 (power), A20 VSS (power), B2 VSS (power), B3 VEXT (power), B18 VDDP3 (power), B19 VSS (power), D4 VSS (power), D5 VFLEX (power), D16 VDDFL3 (power), D17 VSS (power), E5 VSS (power), E15 VDDFL3 (power), E16 VSS (power), G8 VDD/VDDSB (power), G9 VSS (power), G10 VSS (power), G11 VSS (power), G12 VSS (power), G13 VDD (power), H7 VDD/VDDSB (power), H9 VSS (power), H10 VSS (power), H11 VSS (power), H12 VSS (power), H14 VDD (power), J7 VSS (power), J8 VSS (power), J10 VSS (power), J11 VSS (power), J13 VSS (power), J14 VSS (power), K7 VSS (power), K8 VSS (power), K9 VSS (power), K10 VSS (power), K11 VSS (power), K12 VSS (power), K13 VSS (power), K14 NC/VDDPSB, L7 VSS (power), L8 VSS (power), L9 VSS (power), L10 VSS (power), L11 VSS (power), L12 VSS (power), L13 VSS (power), L14 VSS (power), L20 VSS (power), M7 VSS (power), M8 VSS (power), M10 VSS (power), M11 VSS (power), M13 VSS (power), M14 VSS (power), N7 VDD (power), N9 VSS (power), N10 VSS (power), N11 VSS (power), N12 VSS (power), N14 VDD (power), N19 VDD (power), N20 VDDP3 (power), P8 VDD (power), P9 VSS (power), P10 VSS (power), P11 VSS (power), P12 VSS (power), P13 VDD (power), T1 VAREF2 (power), T2 VAGND2 (power), T11 VEVRSB (power), T16 VSS (power), U17 VSS (power), V19 VEXT (power), W19 VSS (power), W20 VEXT (power), Y4 VSSM (power), Y5 VDDM (power), Y6 VAREF1 (power), Y7 VAGND1 (power), Y20 VSS (power)

## SAK-TC297T-128F300S BB
designator U?
32-bit multi-core TriCore AURIX microcontroller with 728 KB SRAM, 8 MB Flash, 300 MHz Frequency, -40 to 125 degC, PG-LFBGA-292; Manufacturer: Infineon; ADC Chan.: 60; CAN FD: Yes; Core 0 TC16E DSPR (KB): 120; Core 0 TC16E PSPR (KB): 32; Core 1&2 TC16P DSPR (KB): 240; EEPROM (KB): 128@500k; Flash (MB): 8; FlexRay (#/ch.): 2 / 4; Freq. (MHz): 300; HSM: No; Total SRAM (KB): 728; Derivative: SAK-TC297T-128F300S BB; DatasheetVersion: Rev. 0.6; PackageReference: PG-LFBGA-292-6; PackageDescription: 292-Pin Plastic (Green) Low Profile Fine Pitch Ball Grid Array Package, 17 x 17 mm Body, 0.8 mm Pitch; Supplier 1: Mouser; Supplier Part Number 1: 726-TC297T128F300SBB; Core 1&2 TC16P PSPR (KB): 32; ETH: Yes; LMU (KB): 32; Supplier Part Reference: TC297T128F300SBBKXUMA1; Mounting Technology: Surface Mount; PartNumber: SAK-TC297T-128F300S BB; ComponentLink1Description: Manufacturer URL; ComponentLink1URL: http://www.infineon.com/
footprint INF-PG-LFBGA-292-6 (BGA, 292-Balls, Body 17x17mm, Pitch 0.8mm)
part A pins: A3 P10.7 (io), A4 P10.6 (io), A5 P10.2 (io), A6 P10.3 (io), A7 P10.0 (io), A8 P11.11 (io), A9 P11.9 (io), A10 P11.2 (io), A11 P13.3 (io), A12 P13.1 (io), A13 P14.8 (io), A14 P14.5 (io), A15 P14.1 (io), A16 P15.6 (io), A17 P15.4 (io), A18 P15.1 (io), B1 P02.0 (io), B4 P10.8 (io), B5 P10.5 (io), B6 P10.4 (io), B7 P10.1 (io), B8 P11.12 (io), B9 P11.10 (io), B10 P11.3 (io), B11 P13.2 (io), B12 P13.0 (io), B13 P14.6 (io), B14 P14.3 (io), B15 P14.4 (io), B16 P14.0 (io), B17 P15.3 (io), B20 P15.0 (io), C1 P02.2 (io), C2 P02.1 (io), C19 P15.2 (io), D1 P02.4 (io), D2 P02.3 (io), D6 P11.15 (io), D7 P11.14 (io), D8 P11.5 (io), D9 P11.6 (io), D10 P11.4 (io), D11 P14.10 (io), D12 P14.9 (io), D13 P14.7 (io), D14 P15.8 (io), D15 P15.7 (io), E1 P02.6 (io), E2 P02.5 (io), E4 P02.9 (io), E6 P11.13 (io), E7 P11.8 (io), E8 P11.7 (io), E9 P11.1 (io), E10 P11.0 (io), E11 P12.1 (io), E12 P12.0 (io), E13 P14.2 (io), E14 P15.5 (io), F1 P02.8 (io), F2 P02.7 (io), F4 P02.11 (io), F5 P02.10 (io), G1 P00.0 (io), G2 P00.1 (io), G4 P01.4 (io), G5 P01.3 (io), H1 P00.2 (io), H2 P00.3 (io), H4 P01.6 (io), H5 P01.5 (io), J1 P00.4 (io), J2 P00.5 (io), J4 P00.6 (io), J5 P01.7 (io), K1 P00.7 (io), K2 P00.9 (io), K4 P00.8 (io), K5 P00.10 (io), L1 P00.11 (io), L2 P00.12 (io)
part B pins: C20 P20.14 (io), D19 P20.12 (io), D20 P20.13 (io), E17 P20.9 (io), E19 P20.10 (io), E20 P20.11 (io), F17 P20.6 (io), F19 P20.7 (io), F20 P20.8 (io), G19 P20.1 (io), G20 P20.3 (io), H16 P21.7 (io), H17 P21.6 (io), H19 P20.2 (in), H20 P20.0 (io), J17 P21.1 (io), J19 P21.3 (io), J20 P21.5 (io), K17 P21.0 (io), K19 P21.2 (io), K20 P21.4 (io), L16 P22.10 (io), L17 P22.11 (io), M16 P22.8 (io), M17 P22.9 (io), N4 P40.6 (in), N5 P40.8 (in), N16 P22.6 (io), N17 P22.7 (io), P1 P40.9 (in), P2 P40.7 (in), P4 P40.4 (in), P16 P22.4 (io), P17 P22.5 (io), P19 P22.1 (io), P20 P22.0 (io), R1 P40.5 (in), R16 P23.7 (io), R17 P23.6 (io), R19 P22.3 (io), R20 P22.2 (io), T12 P34.2 (io), T13 P34.4 (io), T14 P33.14 (io), T15 P32.5 (io), T17 P23.5 (io), T19 P23.3 (io), T20 P23.4 (io), U11 P34.1 (io), U12 P34.3 (io), U13 P34.5 (io), U14 P33.15 (io), U15 P32.6 (io), U16 P32.7 (io), U19 P23.1 (io), U20 P23.2 (io), V1 P40.3 (in), V2 P40.2 (in), V20 P23.0 (io), W1 P40.1 (in), W2 P40.0 (in), W10 P33.0 (io), W11 P33.2 (io), W12 P33.4 (io), W13 P33.6 (io), W14 P33.8 (io), W15 P33.10 (io), W16 P33.12 (io), W18 P32.4 (io), Y10 P33.1 (io), Y11 P33.3 (io), Y12 P33.5 (io), Y13 P33.7 (io), Y14 P33.9 (io), Y15 P33.11 (io), Y16 P33.13 (io), Y17 P32.0 (io), Y18 P32.2 (io), Y19 P32.3 (io)
part C pins: A1 NC, F16 ~{ESR0} (io), G16 ~{ESR1} (io), G17 ~{PORST} (in), J16 TCK (in), K16 TMS (io), L4 AN43 (in), L5 AN42 (in), L19 ~{TRST} (in), M1 AN46 (in), M2 AN47 (in), M4 AN41 (in), M5 AN40 (in), M19 XTAL2, M20 XTAL1, N1 AN44 (in), N2 AN45 (in), P5 AN34 (in), R2 AN35 (in), R4 AN31 (in), R5 AN23 (in), T4 AN30 (in), T5 AN22 (in), T6 AN15 (in), T7 AN12 (in), T8 AN6 (in), T9 AN4 (in), T10 AN0 (in), U1 AN29 (in), U2 AN28 (in), U4 NC, U5 AN17 (in), U6 AN14 (in), U7 AN9 (in), U8 AN7 (in), U9 AN3 (in), U10 AN1 (in), W3 AN19 (in), W4 AN18 (in), W5 AN16 (in), W6 AN13 (in), W7 AN11 (in), W8 AN8 (in), W9 AN2 (in), W17 VGATE1P (out), Y1 NC, Y2 AN21 (in), Y3 AN20 (in), Y8 AN10 (in), Y9 AN5 (in)
part D pins: A2 VEXT (power), A19 VDDP3 (power), A20 VSS (power), B2 VSS (power), B3 VEXT (power), B18 VDDP3 (power), B19 VSS (power), D4 VSS (power), D5 VFLEX (power), D16 VDDFL3 (power), D17 VSS (power), E5 VSS (power), E15 VDDFL3 (power), E16 VSS (power), G8 VDD/VDDSB (power), G9 VSS (power), G10 VSS (power), G11 VSS (power), G12 VSS (power), G13 VDD (power), H7 VDD/VDDSB (power), H9 VSS (power), H10 VSS (power), H11 VSS (power), H12 VSS (power), H14 VDD (power), J7 VSS (power), J8 VSS (power), J10 VSS (power), J11 VSS (power), J13 VSS (power), J14 VSS (power), K7 VSS (power), K8 VSS (power), K9 VSS (power), K10 VSS (power), K11 VSS (power), K12 VSS (power), K13 VSS (power), K14 NC/VDDPSB, L7 VSS (power), L8 VSS (power), L9 VSS (power), L10 VSS (power), L11 VSS (power), L12 VSS (power), L13 VSS (power), L14 VSS (power), L20 VSS (power), M7 VSS (power), M8 VSS (power), M10 VSS (power), M11 VSS (power), M13 VSS (power), M14 VSS (power), N7 VDD (power), N9 VSS (power), N10 VSS (power), N11 VSS (power), N12 VSS (power), N14 VDD (power), N19 VDD (power), N20 VDDP3 (power), P8 VDD (power), P9 VSS (power), P10 VSS (power), P11 VSS (power), P12 VSS (power), P13 VDD (power), T1 VAREF2 (power), T2 VAGND2 (power), T11 VEVRSB (power), T16 VSS (power), U17 VSS (power), V19 VEXT (power), W19 VSS (power), W20 VEXT (power), Y4 VSSM (power), Y5 VDDM (power), Y6 VAREF1 (power), Y7 VAGND1 (power), Y20 VSS (power)

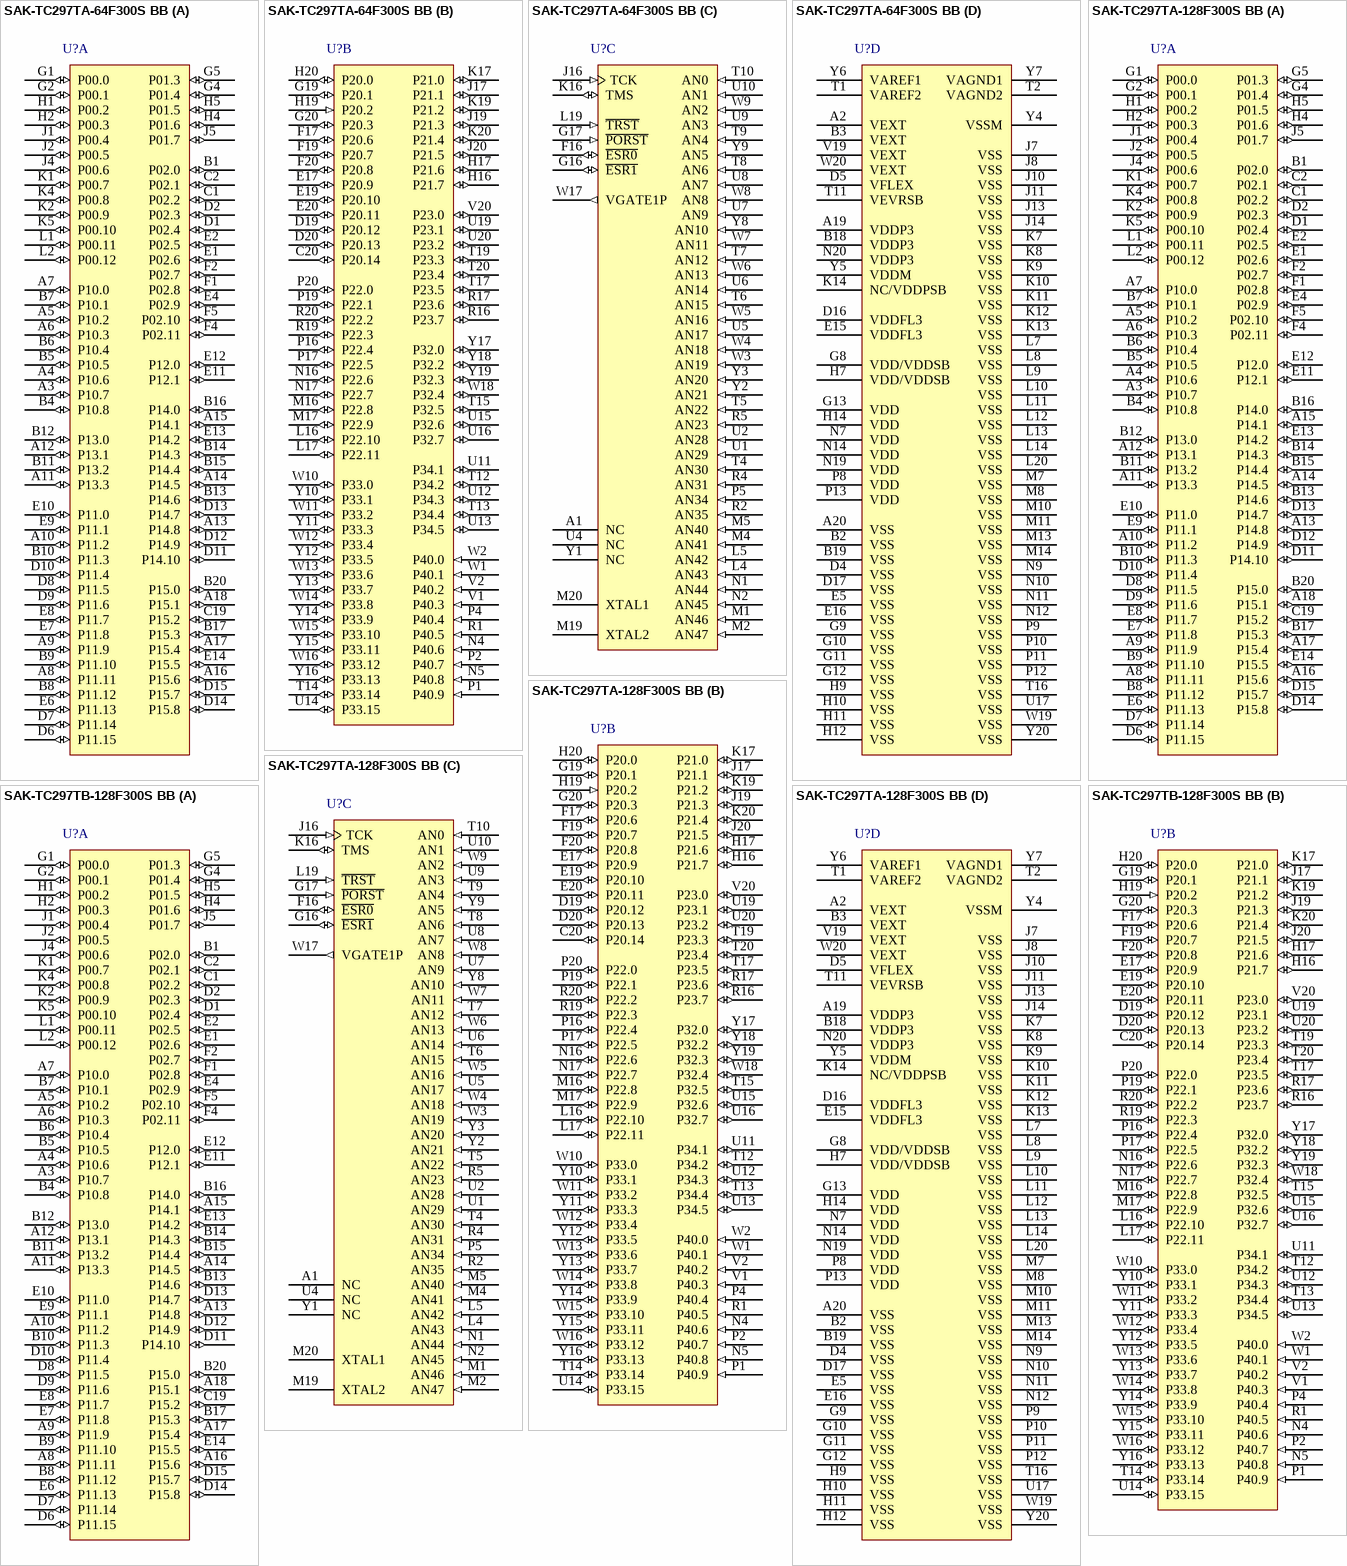
[diagram p18: symbols SAK-TC297TA-64F300S BB to SAK-TC297TB-128F300S BB]

## SAK-TC297TA-64F300S BB
designator U?
32-bit multi-core TriCore AURIX microcontroller with 2776 KB SRAM, 4 MB Flash, 300 MHz Frequency, -40 to 125 degC, PG-LFBGA-292; Manufacturer: Infineon; ADC Chan.: 60; CAN FD: Yes; Core 0 TC16E DSPR (KB): 120; Core 0 TC16E PSPR (KB): 32; Core 1&2 TC16P DSPR (KB): 240; EEPROM (KB): 128@500k; Flash (MB): 4; FlexRay (#/ch.): 2 / 4; Freq. (MHz): 300; Total SRAM (KB): 2776; Derivative: SAK-TC297TA-64F300S BB; DatasheetVersion: Rev. 0.6; PackageReference: PG-LFBGA-292-6; PackageDescription: 292-Pin Plastic (Green) Low Profile Fine Pitch Ball Grid Array Package, 17 x 17 mm Body, 0.8 mm Pitch; Core 1&2 TC16P PSPR (KB): 32; ETH: Yes; HSM: Yes; LMU (KB): 32; Supplier Part Reference: TC297TA64F300SBBKXUMA1; Mounting Technology: Surface Mount; PartNumber: SAK-TC297TA-64F300S BB; ComponentLink1Description: Manufacturer URL; ComponentLink1URL: http://www.infineon.com/
footprint INF-PG-LFBGA-292-6 (BGA, 292-Balls, Body 17x17mm, Pitch 0.8mm)
part A pins: A3 P10.7 (io), A4 P10.6 (io), A5 P10.2 (io), A6 P10.3 (io), A7 P10.0 (io), A8 P11.11 (io), A9 P11.9 (io), A10 P11.2 (io), A11 P13.3 (io), A12 P13.1 (io), A13 P14.8 (io), A14 P14.5 (io), A15 P14.1 (io), A16 P15.6 (io), A17 P15.4 (io), A18 P15.1 (io), B1 P02.0 (io), B4 P10.8 (io), B5 P10.5 (io), B6 P10.4 (io), B7 P10.1 (io), B8 P11.12 (io), B9 P11.10 (io), B10 P11.3 (io), B11 P13.2 (io), B12 P13.0 (io), B13 P14.6 (io), B14 P14.3 (io), B15 P14.4 (io), B16 P14.0 (io), B17 P15.3 (io), B20 P15.0 (io), C1 P02.2 (io), C2 P02.1 (io), C19 P15.2 (io), D1 P02.4 (io), D2 P02.3 (io), D6 P11.15 (io), D7 P11.14 (io), D8 P11.5 (io), D9 P11.6 (io), D10 P11.4 (io), D11 P14.10 (io), D12 P14.9 (io), D13 P14.7 (io), D14 P15.8 (io), D15 P15.7 (io), E1 P02.6 (io), E2 P02.5 (io), E4 P02.9 (io), E6 P11.13 (io), E7 P11.8 (io), E8 P11.7 (io), E9 P11.1 (io), E10 P11.0 (io), E11 P12.1 (io), E12 P12.0 (io), E13 P14.2 (io), E14 P15.5 (io), F1 P02.8 (io), F2 P02.7 (io), F4 P02.11 (io), F5 P02.10 (io), G1 P00.0 (io), G2 P00.1 (io), G4 P01.4 (io), G5 P01.3 (io), H1 P00.2 (io), H2 P00.3 (io), H4 P01.6 (io), H5 P01.5 (io), J1 P00.4 (io), J2 P00.5 (io), J4 P00.6 (io), J5 P01.7 (io), K1 P00.7 (io), K2 P00.9 (io), K4 P00.8 (io), K5 P00.10 (io), L1 P00.11 (io), L2 P00.12 (io)
part B pins: C20 P20.14 (io), D19 P20.12 (io), D20 P20.13 (io), E17 P20.9 (io), E19 P20.10 (io), E20 P20.11 (io), F17 P20.6 (io), F19 P20.7 (io), F20 P20.8 (io), G19 P20.1 (io), G20 P20.3 (io), H16 P21.7 (io), H17 P21.6 (io), H19 P20.2 (in), H20 P20.0 (io), J17 P21.1 (io), J19 P21.3 (io), J20 P21.5 (io), K17 P21.0 (io), K19 P21.2 (io), K20 P21.4 (io), L16 P22.10 (io), L17 P22.11 (io), M16 P22.8 (io), M17 P22.9 (io), N4 P40.6 (in), N5 P40.8 (in), N16 P22.6 (io), N17 P22.7 (io), P1 P40.9 (in), P2 P40.7 (in), P4 P40.4 (in), P16 P22.4 (io), P17 P22.5 (io), P19 P22.1 (io), P20 P22.0 (io), R1 P40.5 (in), R16 P23.7 (io), R17 P23.6 (io), R19 P22.3 (io), R20 P22.2 (io), T12 P34.2 (io), T13 P34.4 (io), T14 P33.14 (io), T15 P32.5 (io), T17 P23.5 (io), T19 P23.3 (io), T20 P23.4 (io), U11 P34.1 (io), U12 P34.3 (io), U13 P34.5 (io), U14 P33.15 (io), U15 P32.6 (io), U16 P32.7 (io), U19 P23.1 (io), U20 P23.2 (io), V1 P40.3 (in), V2 P40.2 (in), V20 P23.0 (io), W1 P40.1 (in), W2 P40.0 (in), W10 P33.0 (io), W11 P33.2 (io), W12 P33.4 (io), W13 P33.6 (io), W14 P33.8 (io), W15 P33.10 (io), W16 P33.12 (io), W18 P32.4 (io), Y10 P33.1 (io), Y11 P33.3 (io), Y12 P33.5 (io), Y13 P33.7 (io), Y14 P33.9 (io), Y15 P33.11 (io), Y16 P33.13 (io), Y17 P32.0 (io), Y18 P32.2 (io), Y19 P32.3 (io)
part C pins: A1 NC, F16 ~{ESR0} (io), G16 ~{ESR1} (io), G17 ~{PORST} (in), J16 TCK (in), K16 TMS (io), L4 AN43 (in), L5 AN42 (in), L19 ~{TRST} (in), M1 AN46 (in), M2 AN47 (in), M4 AN41 (in), M5 AN40 (in), M19 XTAL2, M20 XTAL1, N1 AN44 (in), N2 AN45 (in), P5 AN34 (in), R2 AN35 (in), R4 AN31 (in), R5 AN23 (in), T4 AN30 (in), T5 AN22 (in), T6 AN15 (in), T7 AN12 (in), T8 AN6 (in), T9 AN4 (in), T10 AN0 (in), U1 AN29 (in), U2 AN28 (in), U4 NC, U5 AN17 (in), U6 AN14 (in), U7 AN9 (in), U8 AN7 (in), U9 AN3 (in), U10 AN1 (in), W3 AN19 (in), W4 AN18 (in), W5 AN16 (in), W6 AN13 (in), W7 AN11 (in), W8 AN8 (in), W9 AN2 (in), W17 VGATE1P (out), Y1 NC, Y2 AN21 (in), Y3 AN20 (in), Y8 AN10 (in), Y9 AN5 (in)
part D pins: A2 VEXT (power), A19 VDDP3 (power), A20 VSS (power), B2 VSS (power), B3 VEXT (power), B18 VDDP3 (power), B19 VSS (power), D4 VSS (power), D5 VFLEX (power), D16 VDDFL3 (power), D17 VSS (power), E5 VSS (power), E15 VDDFL3 (power), E16 VSS (power), G8 VDD/VDDSB (power), G9 VSS (power), G10 VSS (power), G11 VSS (power), G12 VSS (power), G13 VDD (power), H7 VDD/VDDSB (power), H9 VSS (power), H10 VSS (power), H11 VSS (power), H12 VSS (power), H14 VDD (power), J7 VSS (power), J8 VSS (power), J10 VSS (power), J11 VSS (power), J13 VSS (power), J14 VSS (power), K7 VSS (power), K8 VSS (power), K9 VSS (power), K10 VSS (power), K11 VSS (power), K12 VSS (power), K13 VSS (power), K14 NC/VDDPSB, L7 VSS (power), L8 VSS (power), L9 VSS (power), L10 VSS (power), L11 VSS (power), L12 VSS (power), L13 VSS (power), L14 VSS (power), L20 VSS (power), M7 VSS (power), M8 VSS (power), M10 VSS (power), M11 VSS (power), M13 VSS (power), M14 VSS (power), N7 VDD (power), N9 VSS (power), N10 VSS (power), N11 VSS (power), N12 VSS (power), N14 VDD (power), N19 VDD (power), N20 VDDP3 (power), P8 VDD (power), P9 VSS (power), P10 VSS (power), P11 VSS (power), P12 VSS (power), P13 VDD (power), T1 VAREF2 (power), T2 VAGND2 (power), T11 VEVRSB (power), T16 VSS (power), U17 VSS (power), V19 VEXT (power), W19 VSS (power), W20 VEXT (power), Y4 VSSM (power), Y5 VDDM (power), Y6 VAREF1 (power), Y7 VAGND1 (power), Y20 VSS (power)

## SAK-TC297TA-128F300S BB
designator U?
32-bit multi-core TriCore AURIX microcontroller with 2776 KB SRAM, 8 MB Flash, 300 MHz Frequency, -40 to 125 degC, PG-LFBGA-292; Manufacturer: Infineon; ADC Chan.: 60; CAN FD: Yes; Core 0 TC16E DSPR (KB): 120; Core 0 TC16E PSPR (KB): 32; Core 1&2 TC16P DSPR (KB): 240; EEPROM (KB): 128@500k; Flash (MB): 8; FlexRay (#/ch.): 2 / 4; Freq. (MHz): 300; Total SRAM (KB): 2776; Derivative: SAK-TC297TA-128F300S BB; DatasheetVersion: Rev. 0.6; PackageReference: PG-LFBGA-292-6; PackageDescription: 292-Pin Plastic (Green) Low Profile Fine Pitch Ball Grid Array Package, 17 x 17 mm Body, 0.8 mm Pitch; Supplier 1: Mouser; Supplier Part Number 1: 726-TC297TA128F300SB; Core 1&2 TC16P PSPR (KB): 32; ETH: Yes; HSM: Yes; LMU (KB): 32; Supplier Part Reference: TC297TA128F300SBBKXUMA1; Mounting Technology: Surface Mount; PartNumber: SAK-TC297TA-128F300S BB; ComponentLink1Description: Manufacturer URL; ComponentLink1URL: http://www.infineon.com/
footprint INF-PG-LFBGA-292-6 (BGA, 292-Balls, Body 17x17mm, Pitch 0.8mm)
part A pins: A3 P10.7 (io), A4 P10.6 (io), A5 P10.2 (io), A6 P10.3 (io), A7 P10.0 (io), A8 P11.11 (io), A9 P11.9 (io), A10 P11.2 (io), A11 P13.3 (io), A12 P13.1 (io), A13 P14.8 (io), A14 P14.5 (io), A15 P14.1 (io), A16 P15.6 (io), A17 P15.4 (io), A18 P15.1 (io), B1 P02.0 (io), B4 P10.8 (io), B5 P10.5 (io), B6 P10.4 (io), B7 P10.1 (io), B8 P11.12 (io), B9 P11.10 (io), B10 P11.3 (io), B11 P13.2 (io), B12 P13.0 (io), B13 P14.6 (io), B14 P14.3 (io), B15 P14.4 (io), B16 P14.0 (io), B17 P15.3 (io), B20 P15.0 (io), C1 P02.2 (io), C2 P02.1 (io), C19 P15.2 (io), D1 P02.4 (io), D2 P02.3 (io), D6 P11.15 (io), D7 P11.14 (io), D8 P11.5 (io), D9 P11.6 (io), D10 P11.4 (io), D11 P14.10 (io), D12 P14.9 (io), D13 P14.7 (io), D14 P15.8 (io), D15 P15.7 (io), E1 P02.6 (io), E2 P02.5 (io), E4 P02.9 (io), E6 P11.13 (io), E7 P11.8 (io), E8 P11.7 (io), E9 P11.1 (io), E10 P11.0 (io), E11 P12.1 (io), E12 P12.0 (io), E13 P14.2 (io), E14 P15.5 (io), F1 P02.8 (io), F2 P02.7 (io), F4 P02.11 (io), F5 P02.10 (io), G1 P00.0 (io), G2 P00.1 (io), G4 P01.4 (io), G5 P01.3 (io), H1 P00.2 (io), H2 P00.3 (io), H4 P01.6 (io), H5 P01.5 (io), J1 P00.4 (io), J2 P00.5 (io), J4 P00.6 (io), J5 P01.7 (io), K1 P00.7 (io), K2 P00.9 (io), K4 P00.8 (io), K5 P00.10 (io), L1 P00.11 (io), L2 P00.12 (io)
part B pins: C20 P20.14 (io), D19 P20.12 (io), D20 P20.13 (io), E17 P20.9 (io), E19 P20.10 (io), E20 P20.11 (io), F17 P20.6 (io), F19 P20.7 (io), F20 P20.8 (io), G19 P20.1 (io), G20 P20.3 (io), H16 P21.7 (io), H17 P21.6 (io), H19 P20.2 (in), H20 P20.0 (io), J17 P21.1 (io), J19 P21.3 (io), J20 P21.5 (io), K17 P21.0 (io), K19 P21.2 (io), K20 P21.4 (io), L16 P22.10 (io), L17 P22.11 (io), M16 P22.8 (io), M17 P22.9 (io), N4 P40.6 (in), N5 P40.8 (in), N16 P22.6 (io), N17 P22.7 (io), P1 P40.9 (in), P2 P40.7 (in), P4 P40.4 (in), P16 P22.4 (io), P17 P22.5 (io), P19 P22.1 (io), P20 P22.0 (io), R1 P40.5 (in), R16 P23.7 (io), R17 P23.6 (io), R19 P22.3 (io), R20 P22.2 (io), T12 P34.2 (io), T13 P34.4 (io), T14 P33.14 (io), T15 P32.5 (io), T17 P23.5 (io), T19 P23.3 (io), T20 P23.4 (io), U11 P34.1 (io), U12 P34.3 (io), U13 P34.5 (io), U14 P33.15 (io), U15 P32.6 (io), U16 P32.7 (io), U19 P23.1 (io), U20 P23.2 (io), V1 P40.3 (in), V2 P40.2 (in), V20 P23.0 (io), W1 P40.1 (in), W2 P40.0 (in), W10 P33.0 (io), W11 P33.2 (io), W12 P33.4 (io), W13 P33.6 (io), W14 P33.8 (io), W15 P33.10 (io), W16 P33.12 (io), W18 P32.4 (io), Y10 P33.1 (io), Y11 P33.3 (io), Y12 P33.5 (io), Y13 P33.7 (io), Y14 P33.9 (io), Y15 P33.11 (io), Y16 P33.13 (io), Y17 P32.0 (io), Y18 P32.2 (io), Y19 P32.3 (io)
part C pins: A1 NC, F16 ~{ESR0} (io), G16 ~{ESR1} (io), G17 ~{PORST} (in), J16 TCK (in), K16 TMS (io), L4 AN43 (in), L5 AN42 (in), L19 ~{TRST} (in), M1 AN46 (in), M2 AN47 (in), M4 AN41 (in), M5 AN40 (in), M19 XTAL2, M20 XTAL1, N1 AN44 (in), N2 AN45 (in), P5 AN34 (in), R2 AN35 (in), R4 AN31 (in), R5 AN23 (in), T4 AN30 (in), T5 AN22 (in), T6 AN15 (in), T7 AN12 (in), T8 AN6 (in), T9 AN4 (in), T10 AN0 (in), U1 AN29 (in), U2 AN28 (in), U4 NC, U5 AN17 (in), U6 AN14 (in), U7 AN9 (in), U8 AN7 (in), U9 AN3 (in), U10 AN1 (in), W3 AN19 (in), W4 AN18 (in), W5 AN16 (in), W6 AN13 (in), W7 AN11 (in), W8 AN8 (in), W9 AN2 (in), W17 VGATE1P (out), Y1 NC, Y2 AN21 (in), Y3 AN20 (in), Y8 AN10 (in), Y9 AN5 (in)
part D pins: A2 VEXT (power), A19 VDDP3 (power), A20 VSS (power), B2 VSS (power), B3 VEXT (power), B18 VDDP3 (power), B19 VSS (power), D4 VSS (power), D5 VFLEX (power), D16 VDDFL3 (power), D17 VSS (power), E5 VSS (power), E15 VDDFL3 (power), E16 VSS (power), G8 VDD/VDDSB (power), G9 VSS (power), G10 VSS (power), G11 VSS (power), G12 VSS (power), G13 VDD (power), H7 VDD/VDDSB (power), H9 VSS (power), H10 VSS (power), H11 VSS (power), H12 VSS (power), H14 VDD (power), J7 VSS (power), J8 VSS (power), J10 VSS (power), J11 VSS (power), J13 VSS (power), J14 VSS (power), K7 VSS (power), K8 VSS (power), K9 VSS (power), K10 VSS (power), K11 VSS (power), K12 VSS (power), K13 VSS (power), K14 NC/VDDPSB, L7 VSS (power), L8 VSS (power), L9 VSS (power), L10 VSS (power), L11 VSS (power), L12 VSS (power), L13 VSS (power), L14 VSS (power), L20 VSS (power), M7 VSS (power), M8 VSS (power), M10 VSS (power), M11 VSS (power), M13 VSS (power), M14 VSS (power), N7 VDD (power), N9 VSS (power), N10 VSS (power), N11 VSS (power), N12 VSS (power), N14 VDD (power), N19 VDD (power), N20 VDDP3 (power), P8 VDD (power), P9 VSS (power), P10 VSS (power), P11 VSS (power), P12 VSS (power), P13 VDD (power), T1 VAREF2 (power), T2 VAGND2 (power), T11 VEVRSB (power), T16 VSS (power), U17 VSS (power), V19 VEXT (power), W19 VSS (power), W20 VEXT (power), Y4 VSSM (power), Y5 VDDM (power), Y6 VAREF1 (power), Y7 VAGND1 (power), Y20 VSS (power)

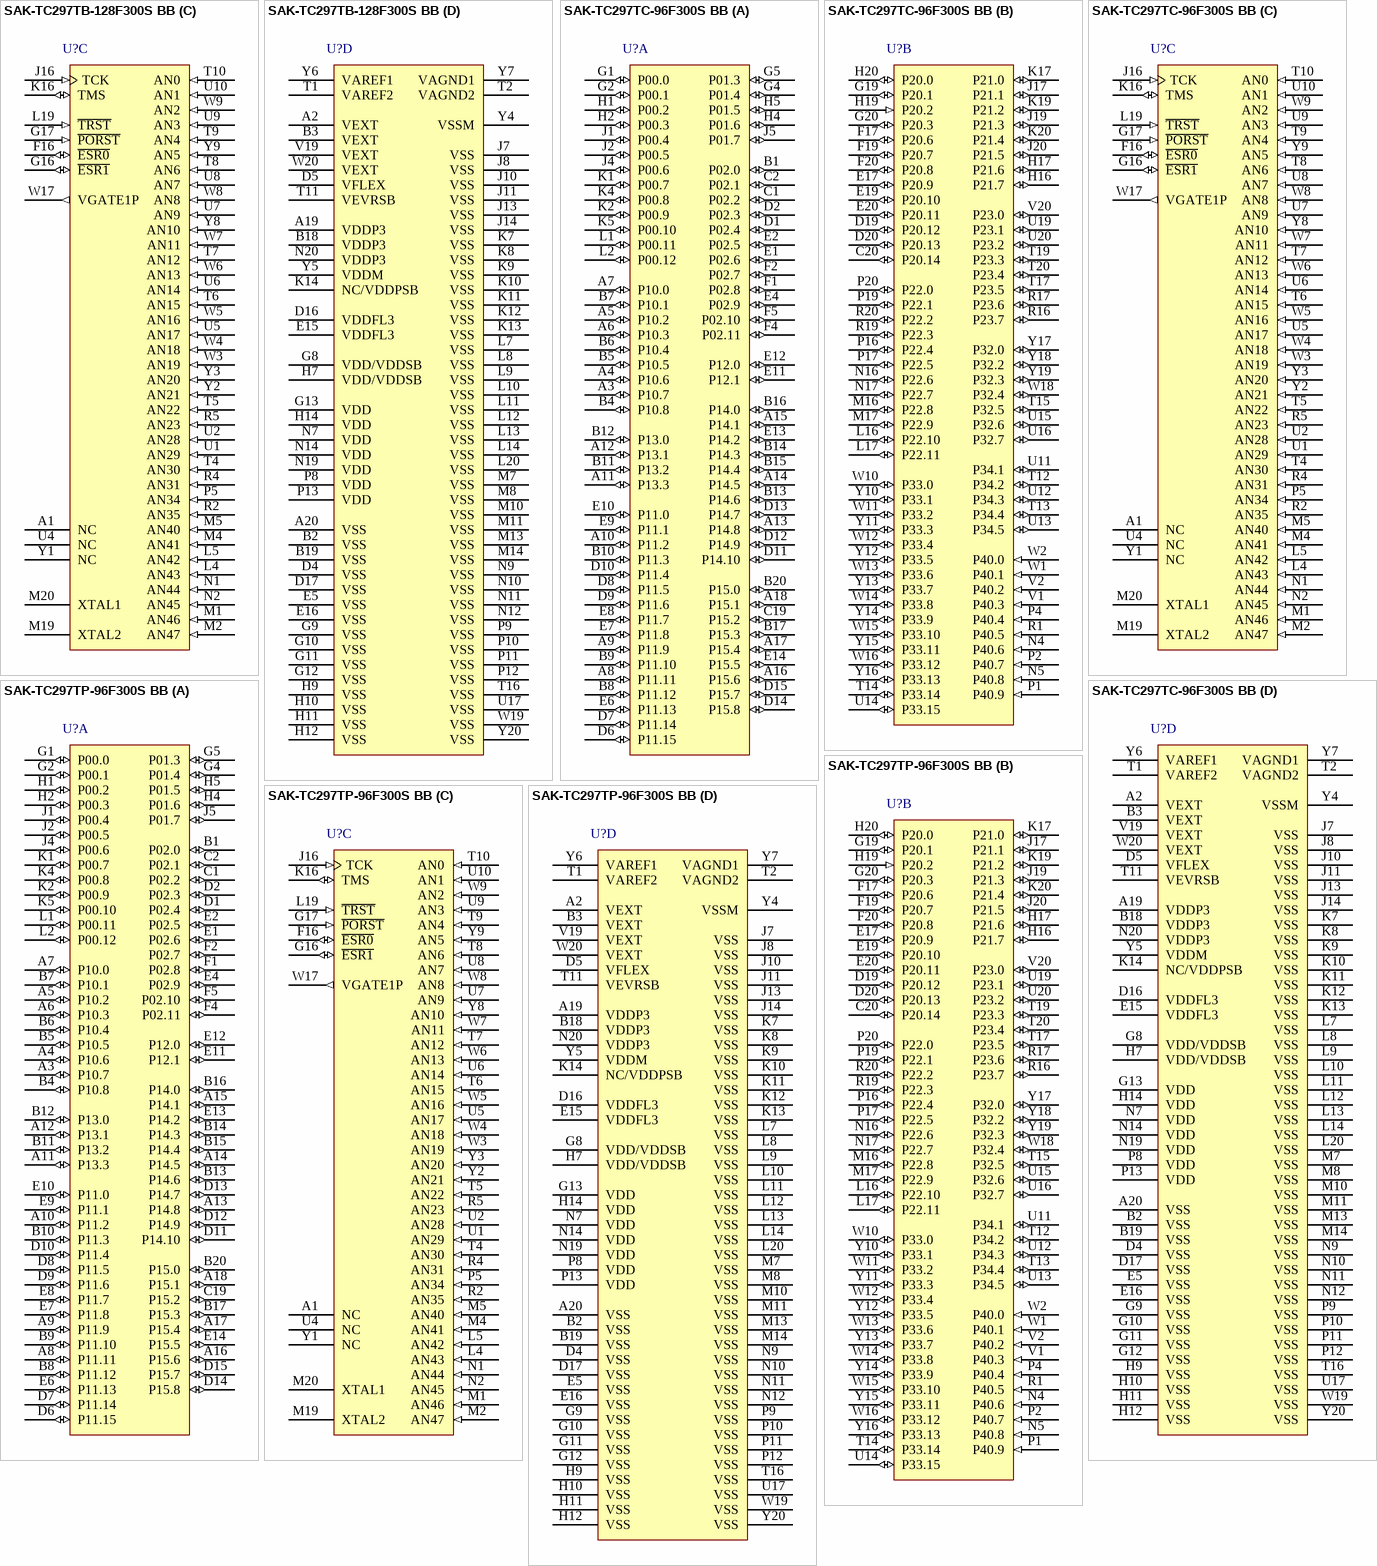
[diagram p19: symbols SAK-TC297TB-128F300S BB to SAK-TC297TP-96F300S BB]